# Altium integrated library Atmel Microcontroller 8-Bit AVR.IntLib: 240 symbols (part 5 of 8)
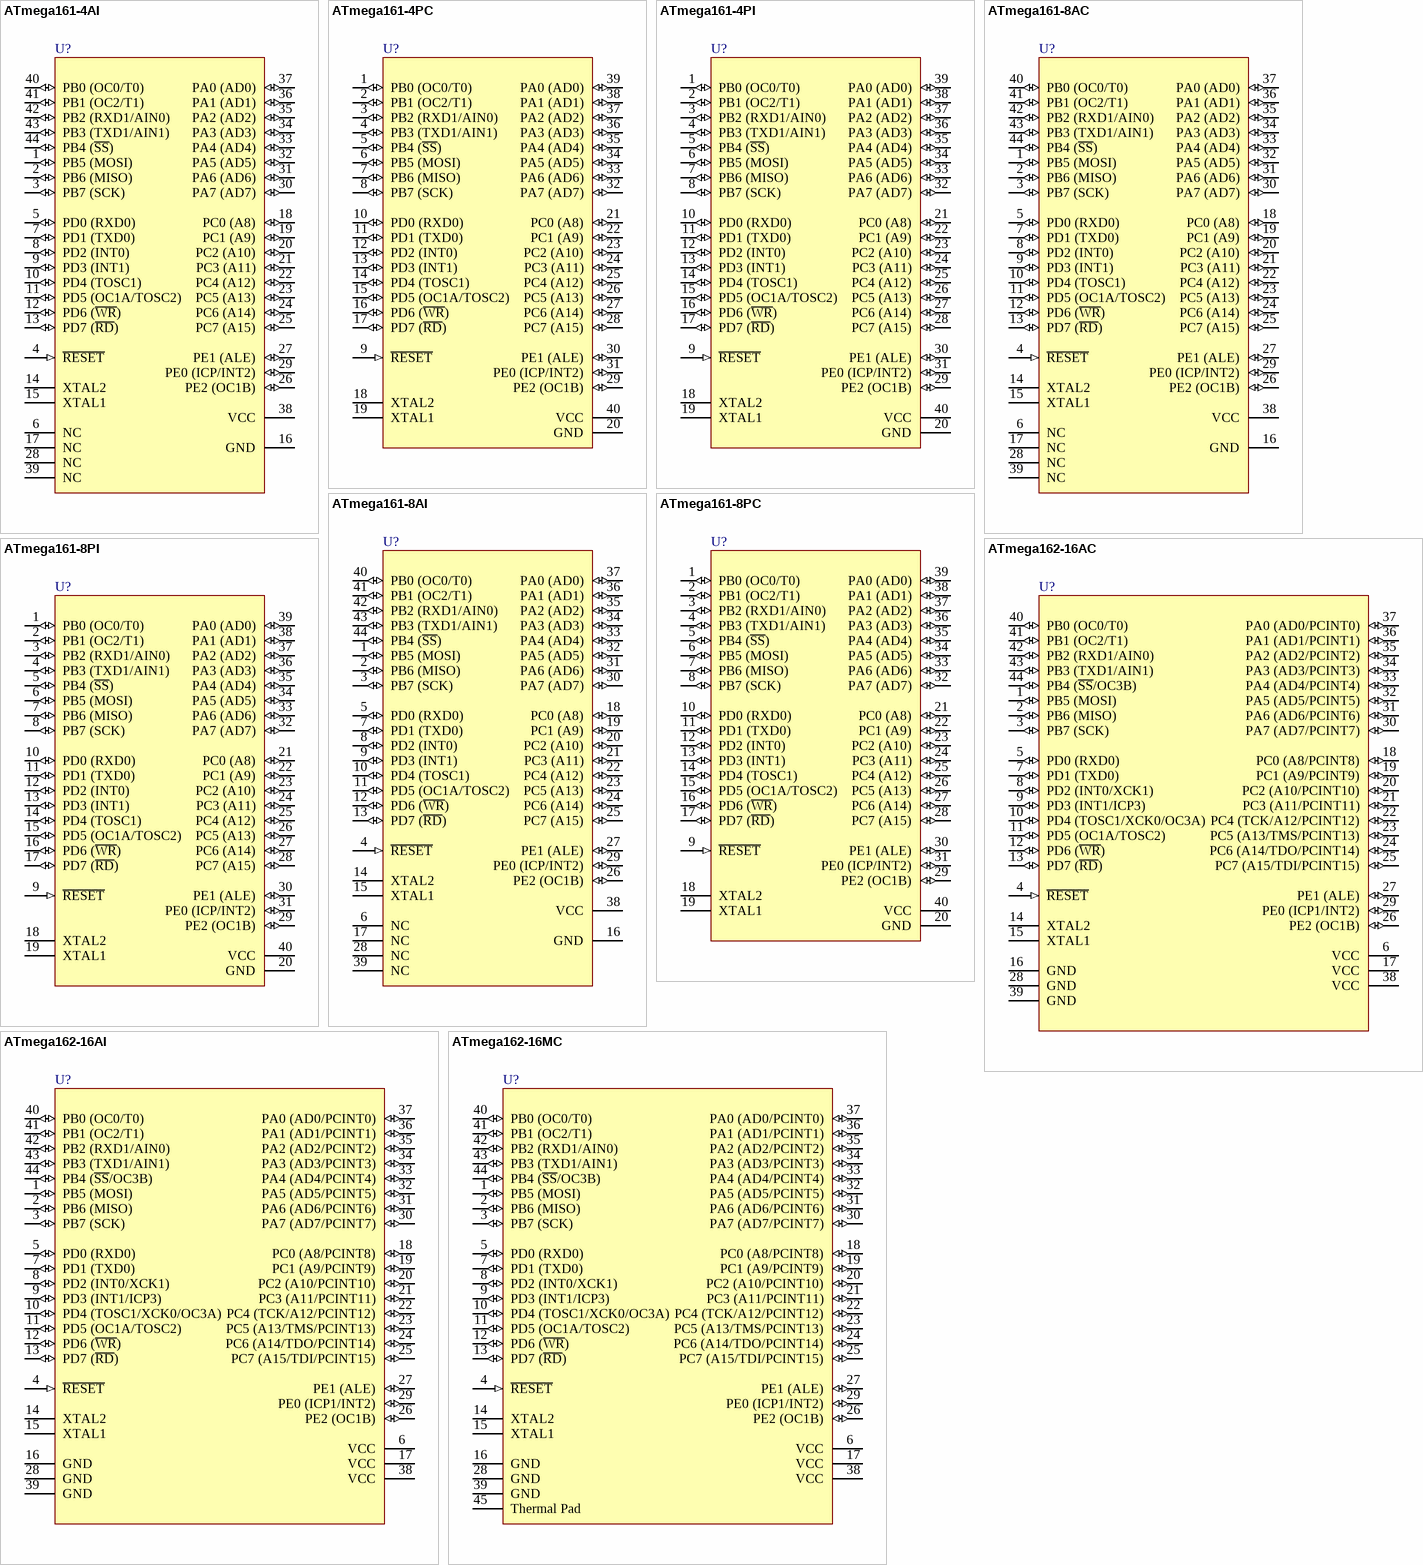
[diagram p22: symbols ATmega161-4AI to ATmega162-16MC]

## ATmega161-4AI
designator U?
8-Bit AVR Microcontroller with 16K Bytes of In-System Programmable Flash Memory; Published: 17-Sep-2003; LatestRevisionDate: 13-Apr-2006; LatestRevisionNote: IPC-7351 Footprint Added.; DatasheetVersion: 1228C-AVR-08/02; PackageVersion: rev.B, Oct-2001; PackageReference: 44A; Publisher: Altium Limited; PackageDescription: 44-Pin Thin Quad Flat Pack 0.8 mm Pitch; ComponentLink1Description: Manufacturer Link; ComponentLink1URL: http://www.atmel.com; ComponentLink2Description: Datasheet; ComponentLink2URL: http://www.atmel.com/dyn/resources/prod_documents/doc1228.pdf
footprint 44A_N (Thin QFP, 44-Leads, Body 10x10mm, Pitch 0.8mm, IPC Medium Density)
footprint 44A_L (Thin QFP, 44-Leads, Body 10x10mm, Pitch 0.8mm, IPC High Density)
footprint 44A_M (Thin QFP, 44-Leads, Body 10x10mm, Pitch 0.8mm, IPC Low Density)
3D model ATMEGA161-44A (44-Pin Thin Quad Flat Pack 0.8 mm Pitch)
pins: 1 PB5 (MOSI) (io), 2 PB6 (MISO) (io), 3 PB7 (SCK) (io), 4 ~{RESET} (in), 5 PD0 (RXD0) (io), 6 NC, 7 PD1 (TXD0) (io), 8 PD2 (INT0) (io), 9 PD3 (INT1) (io), 10 PD4 (TOSC1) (io), 11 PD5 (OC1A/TOSC2) (io), 12 PD6 (~{WR}) (io), 13 PD7 (~{RD}) (io), 14 XTAL2, 15 XTAL1, 16 GND (power), 17 NC, 18 PC0 (A8) (io), 19 PC1 (A9) (io), 20 PC2 (A10) (io), 21 PC3 (A11) (io), 22 PC4 (A12) (io), 23 PC5 (A13) (io), 24 PC6 (A14) (io), 25 PC7 (A15) (io), 26 PE2 (OC1B) (io), 27 PE1 (ALE) (io), 28 NC, 29 PE0 (ICP/INT2) (io), 30 PA7 (AD7) (io), 31 PA6 (AD6) (io), 32 PA5 (AD5) (io), 33 PA4 (AD4) (io), 34 PA3 (AD3) (io), 35 PA2 (AD2) (io), 36 PA1 (AD1) (io), 37 PA0 (AD0) (io), 38 VCC (power), 39 NC, 40 PB0 (OC0/T0) (io), 41 PB1 (OC2/T1) (io), 42 PB2 (RXD1/AIN0) (io), 43 PB3 (TXD1/AIN1) (io), 44 PB4 (~{SS}) (io)

## ATmega161-4PC
designator U?
8-Bit AVR Microcontroller with 16K Bytes of In-System Programmable Flash Memory; Published: 17-Sep-2003; LatestRevisionDate: 04-Mar-2005; LatestRevisionNote: Stylized 3D Model Added.; DatasheetVersion: 1228C-AVR-08/02; PackageVersion: Dec-1999; PackageReference: 40P6; Publisher: Altium Limited; PackageDescription: DIP; 40 Leads; Row Spacing 15.24 mm; Pitch 2.54 mm; ComponentLink1Description: Manufacturer Link; ComponentLink1URL: http://www.atmel.com; ComponentLink2Description: Datasheet; ComponentLink2URL: http://www.atmel.com/dyn/resources/prod_documents/doc1228.pdf
footprint 40P6 (DIP; 40 Leads; Row Spacing 15.24 mm; Pitch 2.54 mm)
3D model 40P6 (DIP; 40 Leads; Row Spacing 15.24 mm; Pitch 2.54 mm)
pins: 1 PB0 (OC0/T0) (io), 2 PB1 (OC2/T1) (io), 3 PB2 (RXD1/AIN0) (io), 4 PB3 (TXD1/AIN1) (io), 5 PB4 (~{SS}) (io), 6 PB5 (MOSI) (io), 7 PB6 (MISO) (io), 8 PB7 (SCK) (io), 9 ~{RESET} (in), 10 PD0 (RXD0) (io), 11 PD1 (TXD0) (io), 12 PD2 (INT0) (io), 13 PD3 (INT1) (io), 14 PD4 (TOSC1) (io), 15 PD5 (OC1A/TOSC2) (io), 16 PD6 (~{WR}) (io), 17 PD7 (~{RD}) (io), 18 XTAL2, 19 XTAL1, 20 GND (power), 21 PC0 (A8) (io), 22 PC1 (A9) (io), 23 PC2 (A10) (io), 24 PC3 (A11) (io), 25 PC4 (A12) (io), 26 PC5 (A13) (io), 27 PC6 (A14) (io), 28 PC7 (A15) (io), 29 PE2 (OC1B) (io), 30 PE1 (ALE) (io), 31 PE0 (ICP/INT2) (io), 32 PA7 (AD7) (io), 33 PA6 (AD6) (io), 34 PA5 (AD5) (io), 35 PA4 (AD4) (io), 36 PA3 (AD3) (io), 37 PA2 (AD2) (io), 38 PA1 (AD1) (io), 39 PA0 (AD0) (io), 40 VCC (power)

## ATmega161-4PI
designator U?
8-Bit AVR Microcontroller with 16K Bytes of In-System Programmable Flash Memory; Published: 17-Sep-2003; LatestRevisionDate: 04-Mar-2005; LatestRevisionNote: Stylized 3D Model Added.; DatasheetVersion: 1228C-AVR-08/02; PackageVersion: Dec-1999; PackageReference: 40P6; Publisher: Altium Limited; PackageDescription: DIP; 40 Leads; Row Spacing 15.24 mm; Pitch 2.54 mm; ComponentLink1Description: Manufacturer Link; ComponentLink1URL: http://www.atmel.com; ComponentLink2Description: Datasheet; ComponentLink2URL: http://www.atmel.com/dyn/resources/prod_documents/doc1228.pdf
footprint 40P6 (DIP; 40 Leads; Row Spacing 15.24 mm; Pitch 2.54 mm)
3D model 40P6 (DIP; 40 Leads; Row Spacing 15.24 mm; Pitch 2.54 mm)
pins: 1 PB0 (OC0/T0) (io), 2 PB1 (OC2/T1) (io), 3 PB2 (RXD1/AIN0) (io), 4 PB3 (TXD1/AIN1) (io), 5 PB4 (~{SS}) (io), 6 PB5 (MOSI) (io), 7 PB6 (MISO) (io), 8 PB7 (SCK) (io), 9 ~{RESET} (in), 10 PD0 (RXD0) (io), 11 PD1 (TXD0) (io), 12 PD2 (INT0) (io), 13 PD3 (INT1) (io), 14 PD4 (TOSC1) (io), 15 PD5 (OC1A/TOSC2) (io), 16 PD6 (~{WR}) (io), 17 PD7 (~{RD}) (io), 18 XTAL2, 19 XTAL1, 20 GND (power), 21 PC0 (A8) (io), 22 PC1 (A9) (io), 23 PC2 (A10) (io), 24 PC3 (A11) (io), 25 PC4 (A12) (io), 26 PC5 (A13) (io), 27 PC6 (A14) (io), 28 PC7 (A15) (io), 29 PE2 (OC1B) (io), 30 PE1 (ALE) (io), 31 PE0 (ICP/INT2) (io), 32 PA7 (AD7) (io), 33 PA6 (AD6) (io), 34 PA5 (AD5) (io), 35 PA4 (AD4) (io), 36 PA3 (AD3) (io), 37 PA2 (AD2) (io), 38 PA1 (AD1) (io), 39 PA0 (AD0) (io), 40 VCC (power)

## ATmega161-8AC
designator U?
8-Bit AVR Microcontroller with 16K Bytes of In-System Programmable Flash Memory; Published: 17-Sep-2003; LatestRevisionDate: 13-Apr-2006; LatestRevisionNote: IPC-7351 Footprint Added.; DatasheetVersion: 1228C-AVR-08/02; PackageVersion: rev.B, Oct-2001; PackageReference: 44A; Publisher: Altium Limited; PackageDescription: 44-Pin Thin Quad Flat Pack 0.8 mm Pitch; ComponentLink1Description: Manufacturer Link; ComponentLink1URL: http://www.atmel.com; ComponentLink2Description: Datasheet; ComponentLink2URL: http://www.atmel.com/dyn/resources/prod_documents/doc1228.pdf
footprint 44A_N (Thin QFP, 44-Leads, Body 10x10mm, Pitch 0.8mm, IPC Medium Density)
footprint 44A_L (Thin QFP, 44-Leads, Body 10x10mm, Pitch 0.8mm, IPC High Density)
footprint 44A_M (Thin QFP, 44-Leads, Body 10x10mm, Pitch 0.8mm, IPC Low Density)
3D model ATMEGA161-44A (44-Pin Thin Quad Flat Pack 0.8 mm Pitch)
pins: 1 PB5 (MOSI) (io), 2 PB6 (MISO) (io), 3 PB7 (SCK) (io), 4 ~{RESET} (in), 5 PD0 (RXD0) (io), 6 NC, 7 PD1 (TXD0) (io), 8 PD2 (INT0) (io), 9 PD3 (INT1) (io), 10 PD4 (TOSC1) (io), 11 PD5 (OC1A/TOSC2) (io), 12 PD6 (~{WR}) (io), 13 PD7 (~{RD}) (io), 14 XTAL2, 15 XTAL1, 16 GND (power), 17 NC, 18 PC0 (A8) (io), 19 PC1 (A9) (io), 20 PC2 (A10) (io), 21 PC3 (A11) (io), 22 PC4 (A12) (io), 23 PC5 (A13) (io), 24 PC6 (A14) (io), 25 PC7 (A15) (io), 26 PE2 (OC1B) (io), 27 PE1 (ALE) (io), 28 NC, 29 PE0 (ICP/INT2) (io), 30 PA7 (AD7) (io), 31 PA6 (AD6) (io), 32 PA5 (AD5) (io), 33 PA4 (AD4) (io), 34 PA3 (AD3) (io), 35 PA2 (AD2) (io), 36 PA1 (AD1) (io), 37 PA0 (AD0) (io), 38 VCC (power), 39 NC, 40 PB0 (OC0/T0) (io), 41 PB1 (OC2/T1) (io), 42 PB2 (RXD1/AIN0) (io), 43 PB3 (TXD1/AIN1) (io), 44 PB4 (~{SS}) (io)

## ATmega161-8AI
designator U?
8-Bit AVR Microcontroller with 16K Bytes of In-System Programmable Flash Memory; Published: 17-Sep-2003; LatestRevisionDate: 13-Apr-2006; LatestRevisionNote: IPC-7351 Footprint Added.; DatasheetVersion: 1228C-AVR-08/02; PackageVersion: rev.B, Oct-2001; PackageReference: 44A; Publisher: Altium Limited; PackageDescription: 44-Pin Thin Quad Flat Pack 0.8 mm Pitch; ComponentLink1Description: Manufacturer Link; ComponentLink1URL: http://www.atmel.com; ComponentLink2Description: Datasheet; ComponentLink2URL: http://www.atmel.com/dyn/resources/prod_documents/doc1228.pdf
footprint 44A_N (Thin QFP, 44-Leads, Body 10x10mm, Pitch 0.8mm, IPC Medium Density)
footprint 44A_L (Thin QFP, 44-Leads, Body 10x10mm, Pitch 0.8mm, IPC High Density)
footprint 44A_M (Thin QFP, 44-Leads, Body 10x10mm, Pitch 0.8mm, IPC Low Density)
3D model ATMEGA161-44A (44-Pin Thin Quad Flat Pack 0.8 mm Pitch)
pins: 1 PB5 (MOSI) (io), 2 PB6 (MISO) (io), 3 PB7 (SCK) (io), 4 ~{RESET} (in), 5 PD0 (RXD0) (io), 6 NC, 7 PD1 (TXD0) (io), 8 PD2 (INT0) (io), 9 PD3 (INT1) (io), 10 PD4 (TOSC1) (io), 11 PD5 (OC1A/TOSC2) (io), 12 PD6 (~{WR}) (io), 13 PD7 (~{RD}) (io), 14 XTAL2, 15 XTAL1, 16 GND (power), 17 NC, 18 PC0 (A8) (io), 19 PC1 (A9) (io), 20 PC2 (A10) (io), 21 PC3 (A11) (io), 22 PC4 (A12) (io), 23 PC5 (A13) (io), 24 PC6 (A14) (io), 25 PC7 (A15) (io), 26 PE2 (OC1B) (io), 27 PE1 (ALE) (io), 28 NC, 29 PE0 (ICP/INT2) (io), 30 PA7 (AD7) (io), 31 PA6 (AD6) (io), 32 PA5 (AD5) (io), 33 PA4 (AD4) (io), 34 PA3 (AD3) (io), 35 PA2 (AD2) (io), 36 PA1 (AD1) (io), 37 PA0 (AD0) (io), 38 VCC (power), 39 NC, 40 PB0 (OC0/T0) (io), 41 PB1 (OC2/T1) (io), 42 PB2 (RXD1/AIN0) (io), 43 PB3 (TXD1/AIN1) (io), 44 PB4 (~{SS}) (io)

## ATmega161-8PC
designator U?
8-Bit AVR Microcontroller with 16K Bytes of In-System Programmable Flash Memory; Published: 17-Sep-2003; LatestRevisionDate: 04-Mar-2005; LatestRevisionNote: Stylized 3D Model Added.; DatasheetVersion: 1228C-AVR-08/02; PackageVersion: Dec-1999; PackageReference: 40P6; Publisher: Altium Limited; PackageDescription: DIP; 40 Leads; Row Spacing 15.24 mm; Pitch 2.54 mm; ComponentLink1Description: Manufacturer Link; ComponentLink1URL: http://www.atmel.com; ComponentLink2Description: Datasheet; ComponentLink2URL: http://www.atmel.com/dyn/resources/prod_documents/doc1228.pdf
footprint 40P6 (DIP; 40 Leads; Row Spacing 15.24 mm; Pitch 2.54 mm)
3D model 40P6 (DIP; 40 Leads; Row Spacing 15.24 mm; Pitch 2.54 mm)
pins: 1 PB0 (OC0/T0) (io), 2 PB1 (OC2/T1) (io), 3 PB2 (RXD1/AIN0) (io), 4 PB3 (TXD1/AIN1) (io), 5 PB4 (~{SS}) (io), 6 PB5 (MOSI) (io), 7 PB6 (MISO) (io), 8 PB7 (SCK) (io), 9 ~{RESET} (in), 10 PD0 (RXD0) (io), 11 PD1 (TXD0) (io), 12 PD2 (INT0) (io), 13 PD3 (INT1) (io), 14 PD4 (TOSC1) (io), 15 PD5 (OC1A/TOSC2) (io), 16 PD6 (~{WR}) (io), 17 PD7 (~{RD}) (io), 18 XTAL2, 19 XTAL1, 20 GND (power), 21 PC0 (A8) (io), 22 PC1 (A9) (io), 23 PC2 (A10) (io), 24 PC3 (A11) (io), 25 PC4 (A12) (io), 26 PC5 (A13) (io), 27 PC6 (A14) (io), 28 PC7 (A15) (io), 29 PE2 (OC1B) (io), 30 PE1 (ALE) (io), 31 PE0 (ICP/INT2) (io), 32 PA7 (AD7) (io), 33 PA6 (AD6) (io), 34 PA5 (AD5) (io), 35 PA4 (AD4) (io), 36 PA3 (AD3) (io), 37 PA2 (AD2) (io), 38 PA1 (AD1) (io), 39 PA0 (AD0) (io), 40 VCC (power)

## ATmega161-8PI
designator U?
8-Bit AVR Microcontroller with 16K Bytes of In-System Programmable Flash Memory; Published: 17-Sep-2003; LatestRevisionDate: 04-Mar-2005; LatestRevisionNote: Stylized 3D Model Added.; DatasheetVersion: 1228C-AVR-08/02; PackageVersion: Dec-1999; PackageReference: 40P6; Publisher: Altium Limited; PackageDescription: DIP; 40 Leads; Row Spacing 15.24 mm; Pitch 2.54 mm; ComponentLink1Description: Manufacturer Link; ComponentLink1URL: http://www.atmel.com; ComponentLink2Description: Datasheet; ComponentLink2URL: http://www.atmel.com/dyn/resources/prod_documents/doc1228.pdf
footprint 40P6 (DIP; 40 Leads; Row Spacing 15.24 mm; Pitch 2.54 mm)
3D model 40P6 (DIP; 40 Leads; Row Spacing 15.24 mm; Pitch 2.54 mm)
pins: 1 PB0 (OC0/T0) (io), 2 PB1 (OC2/T1) (io), 3 PB2 (RXD1/AIN0) (io), 4 PB3 (TXD1/AIN1) (io), 5 PB4 (~{SS}) (io), 6 PB5 (MOSI) (io), 7 PB6 (MISO) (io), 8 PB7 (SCK) (io), 9 ~{RESET} (in), 10 PD0 (RXD0) (io), 11 PD1 (TXD0) (io), 12 PD2 (INT0) (io), 13 PD3 (INT1) (io), 14 PD4 (TOSC1) (io), 15 PD5 (OC1A/TOSC2) (io), 16 PD6 (~{WR}) (io), 17 PD7 (~{RD}) (io), 18 XTAL2, 19 XTAL1, 20 GND (power), 21 PC0 (A8) (io), 22 PC1 (A9) (io), 23 PC2 (A10) (io), 24 PC3 (A11) (io), 25 PC4 (A12) (io), 26 PC5 (A13) (io), 27 PC6 (A14) (io), 28 PC7 (A15) (io), 29 PE2 (OC1B) (io), 30 PE1 (ALE) (io), 31 PE0 (ICP/INT2) (io), 32 PA7 (AD7) (io), 33 PA6 (AD6) (io), 34 PA5 (AD5) (io), 35 PA4 (AD4) (io), 36 PA3 (AD3) (io), 37 PA2 (AD2) (io), 38 PA1 (AD1) (io), 39 PA0 (AD0) (io), 40 VCC (power)

## ATmega162-16AC
designator U?
8-Bit AVR Microcontroller with 16K Bytes of In-System Programmable Flash Memory; Published: 17-Sep-2003; LatestRevisionDate: 13-Apr-2006; LatestRevisionNote: IPC-7351 Footprint Added.; DatasheetVersion: 2513C-AVR-09/02; PackageVersion: rev.B, Oct-2001; PackageReference: 44A; Publisher: Altium Limited; PackageDescription: 44-Pin Thin Quad Flat Pack 0.8 mm Pitch; ComponentLink1Description: Manufacturer Link; ComponentLink1URL: http://www.atmel.com; ComponentLink2Description: Datasheet; ComponentLink2URL: http://www.atmel.com/dyn/resources/prod_documents/doc2513.pdf
footprint 44A_N (Thin QFP, 44-Leads, Body 10x10mm, Pitch 0.8mm, IPC Medium Density)
footprint 44A_L (Thin QFP, 44-Leads, Body 10x10mm, Pitch 0.8mm, IPC High Density)
footprint 44A_M (Thin QFP, 44-Leads, Body 10x10mm, Pitch 0.8mm, IPC Low Density)
3D model ATMEGA162-44A (44-Pin Thin Quad Flat Pack 0.8 mm Pitch)
pins: 1 PB5 (MOSI) (io), 2 PB6 (MISO) (io), 3 PB7 (SCK) (io), 4 ~{RESET} (in), 5 PD0 (RXD0) (io), 6 VCC (power), 7 PD1 (TXD0) (io), 8 PD2 (INT0/XCK1) (io), 9 PD3 (INT1/ICP3) (io), 10 PD4 (TOSC1/XCK0/OC3A) (io), 11 PD5 (OC1A/TOSC2) (io), 12 PD6 (~{WR}) (io), 13 PD7 (~{RD}) (io), 14 XTAL2, 15 XTAL1, 16 GND (power), 17 VCC (power), 18 PC0 (A8/PCINT8) (io), 19 PC1 (A9/PCINT9) (io), 20 PC2 (A10/PCINT10) (io), 21 PC3 (A11/PCINT11) (io), 22 PC4 (TCK/A12/PCINT12) (io), 23 PC5 (A13/TMS/PCINT13) (io), 24 PC6 (A14/TDO/PCINT14) (io), 25 PC7 (A15/TDI/PCINT15) (io), 26 PE2 (OC1B) (io), 27 PE1 (ALE) (io), 28 GND (power), 29 PE0 (ICP1/INT2) (io), 30 PA7 (AD7/PCINT7) (io), 31 PA6 (AD6/PCINT6) (io), 32 PA5 (AD5/PCINT5) (io), 33 PA4 (AD4/PCINT4) (io), 34 PA3 (AD3/PCINT3) (io), 35 PA2 (AD2/PCINT2) (io), 36 PA1 (AD1/PCINT1) (io), 37 PA0 (AD0/PCINT0) (io), 38 VCC (power), 39 GND (power), 40 PB0 (OC0/T0) (io), 41 PB1 (OC2/T1) (io), 42 PB2 (RXD1/AIN0) (io), 43 PB3 (TXD1/AIN1) (io), 44 PB4 (~{SS}/OC3B) (io)

## ATmega162-16AI
designator U?
8-Bit AVR Microcontroller with 16K Bytes of In-System Programmable Flash Memory; Published: 17-Sep-2003; LatestRevisionDate: 13-Apr-2006; LatestRevisionNote: IPC-7351 Footprint Added.; DatasheetVersion: 2513C-AVR-09/02; PackageVersion: rev.B, Oct-2001; PackageReference: 44A; Publisher: Altium Limited; PackageDescription: 44-Pin Thin Quad Flat Pack 0.8 mm Pitch; ComponentLink1Description: Manufacturer Link; ComponentLink1URL: http://www.atmel.com; ComponentLink2Description: Datasheet; ComponentLink2URL: http://www.atmel.com/dyn/resources/prod_documents/doc2513.pdf
footprint 44A_N (Thin QFP, 44-Leads, Body 10x10mm, Pitch 0.8mm, IPC Medium Density)
footprint 44A_L (Thin QFP, 44-Leads, Body 10x10mm, Pitch 0.8mm, IPC High Density)
footprint 44A_M (Thin QFP, 44-Leads, Body 10x10mm, Pitch 0.8mm, IPC Low Density)
3D model ATMEGA162-44A (44-Pin Thin Quad Flat Pack 0.8 mm Pitch)
pins: 1 PB5 (MOSI) (io), 2 PB6 (MISO) (io), 3 PB7 (SCK) (io), 4 ~{RESET} (in), 5 PD0 (RXD0) (io), 6 VCC (power), 7 PD1 (TXD0) (io), 8 PD2 (INT0/XCK1) (io), 9 PD3 (INT1/ICP3) (io), 10 PD4 (TOSC1/XCK0/OC3A) (io), 11 PD5 (OC1A/TOSC2) (io), 12 PD6 (~{WR}) (io), 13 PD7 (~{RD}) (io), 14 XTAL2, 15 XTAL1, 16 GND (power), 17 VCC (power), 18 PC0 (A8/PCINT8) (io), 19 PC1 (A9/PCINT9) (io), 20 PC2 (A10/PCINT10) (io), 21 PC3 (A11/PCINT11) (io), 22 PC4 (TCK/A12/PCINT12) (io), 23 PC5 (A13/TMS/PCINT13) (io), 24 PC6 (A14/TDO/PCINT14) (io), 25 PC7 (A15/TDI/PCINT15) (io), 26 PE2 (OC1B) (io), 27 PE1 (ALE) (io), 28 GND (power), 29 PE0 (ICP1/INT2) (io), 30 PA7 (AD7/PCINT7) (io), 31 PA6 (AD6/PCINT6) (io), 32 PA5 (AD5/PCINT5) (io), 33 PA4 (AD4/PCINT4) (io), 34 PA3 (AD3/PCINT3) (io), 35 PA2 (AD2/PCINT2) (io), 36 PA1 (AD1/PCINT1) (io), 37 PA0 (AD0/PCINT0) (io), 38 VCC (power), 39 GND (power), 40 PB0 (OC0/T0) (io), 41 PB1 (OC2/T1) (io), 42 PB2 (RXD1/AIN0) (io), 43 PB3 (TXD1/AIN1) (io), 44 PB4 (~{SS}/OC3B) (io)

## ATmega162-16MC
designator U?
8-Bit AVR Microcontroller with 16K Bytes of In-System Programmable Flash Memory; Published: 26-May-2004; LatestRevisionDate: 13-Apr-2006; LatestRevisionNote: IPC-7351 Footprint Added.; DatasheetVersion: 2513C-AVR-09/02; PackageVersion: revB, Aug-2001; PackageReference: 44M1; Publisher: Altium Limited; PackageDescription: 44-Pin Quad Flat No-Lead 0.5 mm Pitch; Code_JEDEC: MO-220-VKKD-1; ComponentLink1Description: Manufacturer Link; ComponentLink1URL: http://www.atmel.com; ComponentLink2Description: Datasheet; ComponentLink2URL: http://www.atmel.com/dyn/resources/prod_documents/doc2513.pdf
footprint 44M1_N (QFN, 44-Leads, Body 7x7mm, Pitch 0.5mm, IPC Medium Density)
footprint 44M1_L (QFN, 44-Leads, Body 7x7mm, Pitch 0.5mm, IPC High Density)
footprint 44M1_M (QFN, 44-Leads, Body 7x7mm, Pitch 0.5mm, IPC Low Density)
pins: 1 PB5 (MOSI) (io), 2 PB6 (MISO) (io), 3 PB7 (SCK) (io), 4 ~{RESET} (in), 5 PD0 (RXD0) (io), 6 VCC (power), 7 PD1 (TXD0) (io), 8 PD2 (INT0/XCK1) (io), 9 PD3 (INT1/ICP3) (io), 10 PD4 (TOSC1/XCK0/OC3A) (io), 11 PD5 (OC1A/TOSC2) (io), 12 PD6 (~{WR}) (io), 13 PD7 (~{RD}) (io), 14 XTAL2, 15 XTAL1, 16 GND (power), 17 VCC (power), 18 PC0 (A8/PCINT8) (io), 19 PC1 (A9/PCINT9) (io), 20 PC2 (A10/PCINT10) (io), 21 PC3 (A11/PCINT11) (io), 22 PC4 (TCK/A12/PCINT12) (io), 23 PC5 (A13/TMS/PCINT13) (io), 24 PC6 (A14/TDO/PCINT14) (io), 25 PC7 (A15/TDI/PCINT15) (io), 26 PE2 (OC1B) (io), 27 PE1 (ALE) (io), 28 GND (power), 29 PE0 (ICP1/INT2) (io), 30 PA7 (AD7/PCINT7) (io), 31 PA6 (AD6/PCINT6) (io), 32 PA5 (AD5/PCINT5) (io), 33 PA4 (AD4/PCINT4) (io), 34 PA3 (AD3/PCINT3) (io), 35 PA2 (AD2/PCINT2) (io), 36 PA1 (AD1/PCINT1) (io), 37 PA0 (AD0/PCINT0) (io), 38 VCC (power), 39 GND (power), 40 PB0 (OC0/T0) (io), 41 PB1 (OC2/T1) (io), 42 PB2 (RXD1/AIN0) (io), 43 PB3 (TXD1/AIN1) (io), 44 PB4 (~{SS}/OC3B) (io), 45 Thermal Pad (power)

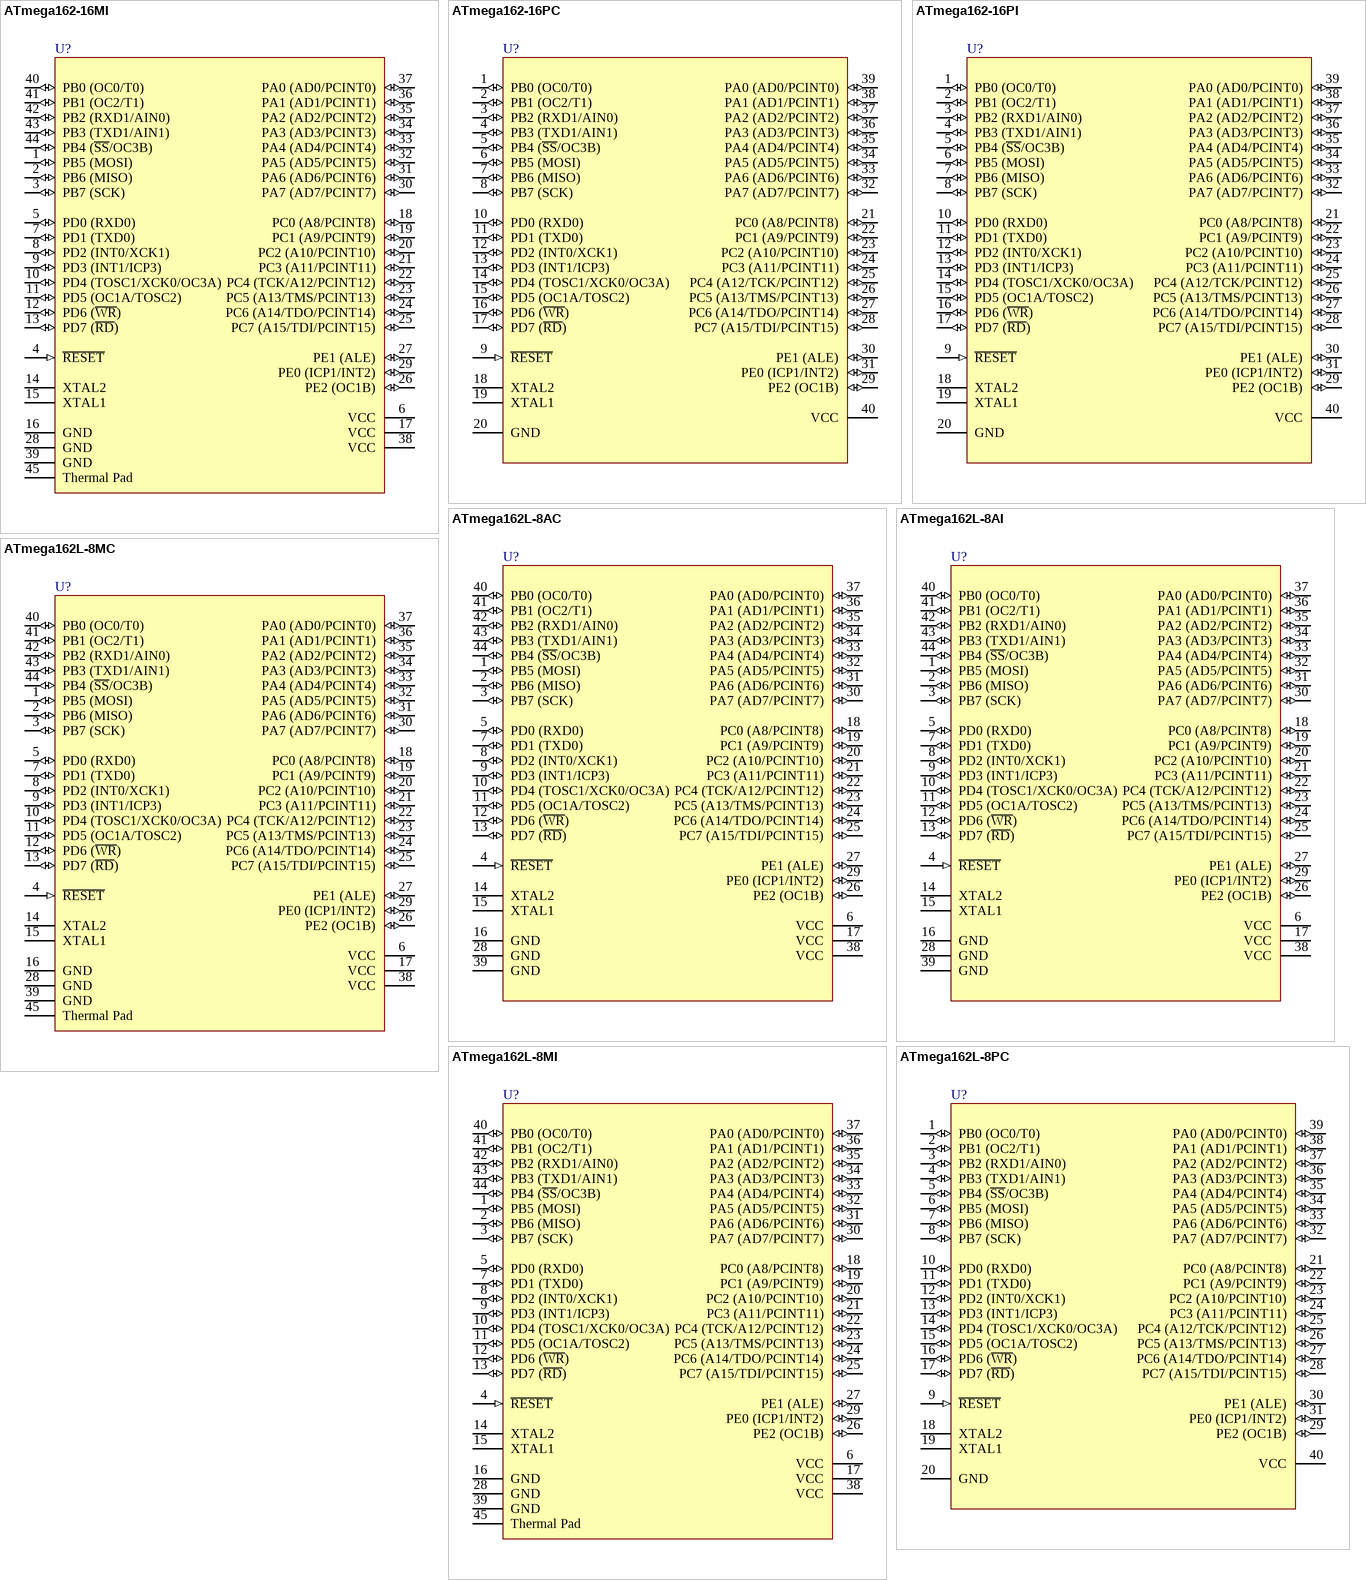
[diagram p11: symbols ATmega162-16MI to ATmega162L-8PC]

## ATmega162-16MI
designator U?
8-Bit AVR Microcontroller with 16K Bytes of In-System Programmable Flash Memory; Published: 26-May-2004; LatestRevisionDate: 13-Apr-2006; LatestRevisionNote: IPC-7351 Footprint Added.; DatasheetVersion: 2513C-AVR-09/02; PackageVersion: revB, Aug-2001; PackageReference: 44M1; Publisher: Altium Limited; PackageDescription: 44-Pin Quad Flat No-Lead 0.5 mm Pitch; Code_JEDEC: MO-220-VKKD-1; ComponentLink1Description: Manufacturer Link; ComponentLink1URL: http://www.atmel.com; ComponentLink2Description: Datasheet; ComponentLink2URL: http://www.atmel.com/dyn/resources/prod_documents/doc2513.pdf
footprint 44M1_N (QFN, 44-Leads, Body 7x7mm, Pitch 0.5mm, IPC Medium Density)
footprint 44M1_L (QFN, 44-Leads, Body 7x7mm, Pitch 0.5mm, IPC High Density)
footprint 44M1_M (QFN, 44-Leads, Body 7x7mm, Pitch 0.5mm, IPC Low Density)
pins: 1 PB5 (MOSI) (io), 2 PB6 (MISO) (io), 3 PB7 (SCK) (io), 4 ~{RESET} (in), 5 PD0 (RXD0) (io), 6 VCC (power), 7 PD1 (TXD0) (io), 8 PD2 (INT0/XCK1) (io), 9 PD3 (INT1/ICP3) (io), 10 PD4 (TOSC1/XCK0/OC3A) (io), 11 PD5 (OC1A/TOSC2) (io), 12 PD6 (~{WR}) (io), 13 PD7 (~{RD}) (io), 14 XTAL2, 15 XTAL1, 16 GND (power), 17 VCC (power), 18 PC0 (A8/PCINT8) (io), 19 PC1 (A9/PCINT9) (io), 20 PC2 (A10/PCINT10) (io), 21 PC3 (A11/PCINT11) (io), 22 PC4 (TCK/A12/PCINT12) (io), 23 PC5 (A13/TMS/PCINT13) (io), 24 PC6 (A14/TDO/PCINT14) (io), 25 PC7 (A15/TDI/PCINT15) (io), 26 PE2 (OC1B) (io), 27 PE1 (ALE) (io), 28 GND (power), 29 PE0 (ICP1/INT2) (io), 30 PA7 (AD7/PCINT7) (io), 31 PA6 (AD6/PCINT6) (io), 32 PA5 (AD5/PCINT5) (io), 33 PA4 (AD4/PCINT4) (io), 34 PA3 (AD3/PCINT3) (io), 35 PA2 (AD2/PCINT2) (io), 36 PA1 (AD1/PCINT1) (io), 37 PA0 (AD0/PCINT0) (io), 38 VCC (power), 39 GND (power), 40 PB0 (OC0/T0) (io), 41 PB1 (OC2/T1) (io), 42 PB2 (RXD1/AIN0) (io), 43 PB3 (TXD1/AIN1) (io), 44 PB4 (~{SS}/OC3B) (io), 45 Thermal Pad (power)

## ATmega162-16PC
designator U?
8-Bit AVR Microcontroller with 16K Bytes of In-System Programmable Flash Memory; Published: 17-Sep-2003; LatestRevisionDate: 04-Mar-2005; LatestRevisionNote: Stylized 3D Model Added.; DatasheetVersion: 2513C-AVR-09/02; PackageVersion: Dec-1999; PackageReference: 40P6; Publisher: Altium Limited; PackageDescription: DIP; 40 Leads; Row Spacing 15.24 mm; Pitch 2.54 mm; ComponentLink1Description: Manufacturer Link; ComponentLink1URL: http://www.atmel.com; ComponentLink2Description: Datasheet; ComponentLink2URL: http://www.atmel.com/dyn/resources/prod_documents/doc2513.pdf
footprint 40P6 (DIP; 40 Leads; Row Spacing 15.24 mm; Pitch 2.54 mm)
3D model 40P6 (DIP; 40 Leads; Row Spacing 15.24 mm; Pitch 2.54 mm)
pins: 1 PB0 (OC0/T0) (io), 2 PB1 (OC2/T1) (io), 3 PB2 (RXD1/AIN0) (io), 4 PB3 (TXD1/AIN1) (io), 5 PB4 (~{SS}/OC3B) (io), 6 PB5 (MOSI) (io), 7 PB6 (MISO) (io), 8 PB7 (SCK) (io), 9 ~{RESET} (in), 10 PD0 (RXD0) (io), 11 PD1 (TXD0) (io), 12 PD2 (INT0/XCK1) (io), 13 PD3 (INT1/ICP3) (io), 14 PD4 (TOSC1/XCK0/OC3A) (io), 15 PD5 (OC1A/TOSC2) (io), 16 PD6 (~{WR}) (io), 17 PD7 (~{RD}) (io), 18 XTAL2, 19 XTAL1, 20 GND (power), 21 PC0 (A8/PCINT8) (io), 22 PC1 (A9/PCINT9) (io), 23 PC2 (A10/PCINT10) (io), 24 PC3 (A11/PCINT11) (io), 25 PC4 (A12/TCK/PCINT12) (io), 26 PC5 (A13/TMS/PCINT13) (io), 27 PC6 (A14/TDO/PCINT14) (io), 28 PC7 (A15/TDI/PCINT15) (io), 29 PE2 (OC1B) (io), 30 PE1 (ALE) (io), 31 PE0 (ICP1/INT2) (io), 32 PA7 (AD7/PCINT7) (io), 33 PA6 (AD6/PCINT6) (io), 34 PA5 (AD5/PCINT5) (io), 35 PA4 (AD4/PCINT4) (io), 36 PA3 (AD3/PCINT3) (io), 37 PA2 (AD2/PCINT2) (io), 38 PA1 (AD1/PCINT1) (io), 39 PA0 (AD0/PCINT0) (io), 40 VCC (power)

## ATmega162-16PI
designator U?
8-Bit AVR Microcontroller with 16K Bytes of In-System Programmable Flash Memory; Published: 17-Sep-2003; LatestRevisionDate: 04-Mar-2005; LatestRevisionNote: Stylized 3D Model Added.; DatasheetVersion: 2513C-AVR-09/02; PackageVersion: Dec-1999; PackageReference: 40P6; Publisher: Altium Limited; PackageDescription: DIP; 40 Leads; Row Spacing 15.24 mm; Pitch 2.54 mm; ComponentLink1Description: Manufacturer Link; ComponentLink1URL: http://www.atmel.com; ComponentLink2Description: Datasheet; ComponentLink2URL: http://www.atmel.com/dyn/resources/prod_documents/doc2513.pdf
footprint 40P6 (DIP; 40 Leads; Row Spacing 15.24 mm; Pitch 2.54 mm)
3D model 40P6 (DIP; 40 Leads; Row Spacing 15.24 mm; Pitch 2.54 mm)
pins: 1 PB0 (OC0/T0) (io), 2 PB1 (OC2/T1) (io), 3 PB2 (RXD1/AIN0) (io), 4 PB3 (TXD1/AIN1) (io), 5 PB4 (~{SS}/OC3B) (io), 6 PB5 (MOSI) (io), 7 PB6 (MISO) (io), 8 PB7 (SCK) (io), 9 ~{RESET} (in), 10 PD0 (RXD0) (io), 11 PD1 (TXD0) (io), 12 PD2 (INT0/XCK1) (io), 13 PD3 (INT1/ICP3) (io), 14 PD4 (TOSC1/XCK0/OC3A) (io), 15 PD5 (OC1A/TOSC2) (io), 16 PD6 (~{WR}) (io), 17 PD7 (~{RD}) (io), 18 XTAL2, 19 XTAL1, 20 GND (power), 21 PC0 (A8/PCINT8) (io), 22 PC1 (A9/PCINT9) (io), 23 PC2 (A10/PCINT10) (io), 24 PC3 (A11/PCINT11) (io), 25 PC4 (A12/TCK/PCINT12) (io), 26 PC5 (A13/TMS/PCINT13) (io), 27 PC6 (A14/TDO/PCINT14) (io), 28 PC7 (A15/TDI/PCINT15) (io), 29 PE2 (OC1B) (io), 30 PE1 (ALE) (io), 31 PE0 (ICP1/INT2) (io), 32 PA7 (AD7/PCINT7) (io), 33 PA6 (AD6/PCINT6) (io), 34 PA5 (AD5/PCINT5) (io), 35 PA4 (AD4/PCINT4) (io), 36 PA3 (AD3/PCINT3) (io), 37 PA2 (AD2/PCINT2) (io), 38 PA1 (AD1/PCINT1) (io), 39 PA0 (AD0/PCINT0) (io), 40 VCC (power)

## ATmega162L-8AC
designator U?
8-Bit AVR Microcontroller with 16K Bytes of In-System Programmable Flash Memory; Published: 17-Sep-2003; LatestRevisionDate: 13-Apr-2006; LatestRevisionNote: IPC-7351 Footprint Added.; DatasheetVersion: 2513C-AVR-09/02; PackageVersion: rev.B, Oct-2001; PackageReference: 44A; Publisher: Altium Limited; PackageDescription: 44-Pin Thin Quad Flat Pack 0.8 mm Pitch; ComponentLink1Description: Manufacturer Link; ComponentLink1URL: http://www.atmel.com; ComponentLink2Description: Datasheet; ComponentLink2URL: http://www.atmel.com/dyn/resources/prod_documents/doc2513.pdf
footprint 44A_N (Thin QFP, 44-Leads, Body 10x10mm, Pitch 0.8mm, IPC Medium Density)
footprint 44A_L (Thin QFP, 44-Leads, Body 10x10mm, Pitch 0.8mm, IPC High Density)
footprint 44A_M (Thin QFP, 44-Leads, Body 10x10mm, Pitch 0.8mm, IPC Low Density)
3D model ATMEGA162L-44A (44-Pin Thin Quad Flat Pack 0.8 mm Pitch)
pins: 1 PB5 (MOSI) (io), 2 PB6 (MISO) (io), 3 PB7 (SCK) (io), 4 ~{RESET} (in), 5 PD0 (RXD0) (io), 6 VCC (power), 7 PD1 (TXD0) (io), 8 PD2 (INT0/XCK1) (io), 9 PD3 (INT1/ICP3) (io), 10 PD4 (TOSC1/XCK0/OC3A) (io), 11 PD5 (OC1A/TOSC2) (io), 12 PD6 (~{WR}) (io), 13 PD7 (~{RD}) (io), 14 XTAL2, 15 XTAL1, 16 GND (power), 17 VCC (power), 18 PC0 (A8/PCINT8) (io), 19 PC1 (A9/PCINT9) (io), 20 PC2 (A10/PCINT10) (io), 21 PC3 (A11/PCINT11) (io), 22 PC4 (TCK/A12/PCINT12) (io), 23 PC5 (A13/TMS/PCINT13) (io), 24 PC6 (A14/TDO/PCINT14) (io), 25 PC7 (A15/TDI/PCINT15) (io), 26 PE2 (OC1B) (io), 27 PE1 (ALE) (io), 28 GND (power), 29 PE0 (ICP1/INT2) (io), 30 PA7 (AD7/PCINT7) (io), 31 PA6 (AD6/PCINT6) (io), 32 PA5 (AD5/PCINT5) (io), 33 PA4 (AD4/PCINT4) (io), 34 PA3 (AD3/PCINT3) (io), 35 PA2 (AD2/PCINT2) (io), 36 PA1 (AD1/PCINT1) (io), 37 PA0 (AD0/PCINT0) (io), 38 VCC (power), 39 GND (power), 40 PB0 (OC0/T0) (io), 41 PB1 (OC2/T1) (io), 42 PB2 (RXD1/AIN0) (io), 43 PB3 (TXD1/AIN1) (io), 44 PB4 (~{SS}/OC3B) (io)

## ATmega162L-8AI
designator U?
8-Bit AVR Microcontroller with 16K Bytes of In-System Programmable Flash Memory; Published: 17-Sep-2003; LatestRevisionDate: 13-Apr-2006; LatestRevisionNote: IPC-7351 Footprint Added.; DatasheetVersion: 2513C-AVR-09/02; PackageVersion: rev.B, Oct-2001; PackageReference: 44A; Publisher: Altium Limited; PackageDescription: 44-Pin Thin Quad Flat Pack 0.8 mm Pitch; ComponentLink1Description: Manufacturer Link; ComponentLink1URL: http://www.atmel.com; ComponentLink2Description: Datasheet; ComponentLink2URL: http://www.atmel.com/dyn/resources/prod_documents/doc2513.pdf
footprint 44A_N (Thin QFP, 44-Leads, Body 10x10mm, Pitch 0.8mm, IPC Medium Density)
footprint 44A_L (Thin QFP, 44-Leads, Body 10x10mm, Pitch 0.8mm, IPC High Density)
footprint 44A_M (Thin QFP, 44-Leads, Body 10x10mm, Pitch 0.8mm, IPC Low Density)
3D model ATMEGA162L-44A (44-Pin Thin Quad Flat Pack 0.8 mm Pitch)
pins: 1 PB5 (MOSI) (io), 2 PB6 (MISO) (io), 3 PB7 (SCK) (io), 4 ~{RESET} (in), 5 PD0 (RXD0) (io), 6 VCC (power), 7 PD1 (TXD0) (io), 8 PD2 (INT0/XCK1) (io), 9 PD3 (INT1/ICP3) (io), 10 PD4 (TOSC1/XCK0/OC3A) (io), 11 PD5 (OC1A/TOSC2) (io), 12 PD6 (~{WR}) (io), 13 PD7 (~{RD}) (io), 14 XTAL2, 15 XTAL1, 16 GND (power), 17 VCC (power), 18 PC0 (A8/PCINT8) (io), 19 PC1 (A9/PCINT9) (io), 20 PC2 (A10/PCINT10) (io), 21 PC3 (A11/PCINT11) (io), 22 PC4 (TCK/A12/PCINT12) (io), 23 PC5 (A13/TMS/PCINT13) (io), 24 PC6 (A14/TDO/PCINT14) (io), 25 PC7 (A15/TDI/PCINT15) (io), 26 PE2 (OC1B) (io), 27 PE1 (ALE) (io), 28 GND (power), 29 PE0 (ICP1/INT2) (io), 30 PA7 (AD7/PCINT7) (io), 31 PA6 (AD6/PCINT6) (io), 32 PA5 (AD5/PCINT5) (io), 33 PA4 (AD4/PCINT4) (io), 34 PA3 (AD3/PCINT3) (io), 35 PA2 (AD2/PCINT2) (io), 36 PA1 (AD1/PCINT1) (io), 37 PA0 (AD0/PCINT0) (io), 38 VCC (power), 39 GND (power), 40 PB0 (OC0/T0) (io), 41 PB1 (OC2/T1) (io), 42 PB2 (RXD1/AIN0) (io), 43 PB3 (TXD1/AIN1) (io), 44 PB4 (~{SS}/OC3B) (io)

## ATmega162L-8MC
designator U?
8-Bit AVR Microcontroller with 16K Bytes of In-System Programmable Flash Memory; Published: 26-May-2004; LatestRevisionDate: 13-Apr-2006; LatestRevisionNote: IPC-7351 Footprint Added.; DatasheetVersion: 2513C-AVR-09/02; PackageVersion: revB, Aug-2001; PackageReference: 44M1; Publisher: Altium Limited; PackageDescription: 44-Pin Quad Flat No-Lead 0.5 mm Pitch; Code_JEDEC: MO-220-VKKD-1; ComponentLink1Description: Manufacturer Link; ComponentLink1URL: http://www.atmel.com; ComponentLink2Description: Datasheet; ComponentLink2URL: http://www.atmel.com/dyn/resources/prod_documents/doc2513.pdf
footprint 44M1_N (QFN, 44-Leads, Body 7x7mm, Pitch 0.5mm, IPC Medium Density)
footprint 44M1_L (QFN, 44-Leads, Body 7x7mm, Pitch 0.5mm, IPC High Density)
footprint 44M1_M (QFN, 44-Leads, Body 7x7mm, Pitch 0.5mm, IPC Low Density)
pins: 1 PB5 (MOSI) (io), 2 PB6 (MISO) (io), 3 PB7 (SCK) (io), 4 ~{RESET} (in), 5 PD0 (RXD0) (io), 6 VCC (power), 7 PD1 (TXD0) (io), 8 PD2 (INT0/XCK1) (io), 9 PD3 (INT1/ICP3) (io), 10 PD4 (TOSC1/XCK0/OC3A) (io), 11 PD5 (OC1A/TOSC2) (io), 12 PD6 (~{WR}) (io), 13 PD7 (~{RD}) (io), 14 XTAL2, 15 XTAL1, 16 GND (power), 17 VCC (power), 18 PC0 (A8/PCINT8) (io), 19 PC1 (A9/PCINT9) (io), 20 PC2 (A10/PCINT10) (io), 21 PC3 (A11/PCINT11) (io), 22 PC4 (TCK/A12/PCINT12) (io), 23 PC5 (A13/TMS/PCINT13) (io), 24 PC6 (A14/TDO/PCINT14) (io), 25 PC7 (A15/TDI/PCINT15) (io), 26 PE2 (OC1B) (io), 27 PE1 (ALE) (io), 28 GND (power), 29 PE0 (ICP1/INT2) (io), 30 PA7 (AD7/PCINT7) (io), 31 PA6 (AD6/PCINT6) (io), 32 PA5 (AD5/PCINT5) (io), 33 PA4 (AD4/PCINT4) (io), 34 PA3 (AD3/PCINT3) (io), 35 PA2 (AD2/PCINT2) (io), 36 PA1 (AD1/PCINT1) (io), 37 PA0 (AD0/PCINT0) (io), 38 VCC (power), 39 GND (power), 40 PB0 (OC0/T0) (io), 41 PB1 (OC2/T1) (io), 42 PB2 (RXD1/AIN0) (io), 43 PB3 (TXD1/AIN1) (io), 44 PB4 (~{SS}/OC3B) (io), 45 Thermal Pad (power)

## ATmega162L-8MI
designator U?
8-Bit AVR Microcontroller with 16K Bytes of In-System Programmable Flash Memory; Published: 26-May-2004; LatestRevisionDate: 13-Apr-2006; LatestRevisionNote: IPC-7351 Footprint Added.; DatasheetVersion: 2513C-AVR-09/02; PackageVersion: revB, Aug-2001; PackageReference: 44M1; Publisher: Altium Limited; PackageDescription: 44-Pin Quad Flat No-Lead 0.5 mm Pitch; Code_JEDEC: MO-220-VKKD-1; ComponentLink1Description: Manufacturer Link; ComponentLink1URL: http://www.atmel.com; ComponentLink2Description: Datasheet; ComponentLink2URL: http://www.atmel.com/dyn/resources/prod_documents/doc2513.pdf
footprint 44M1_N (QFN, 44-Leads, Body 7x7mm, Pitch 0.5mm, IPC Medium Density)
footprint 44M1_L (QFN, 44-Leads, Body 7x7mm, Pitch 0.5mm, IPC High Density)
footprint 44M1_M (QFN, 44-Leads, Body 7x7mm, Pitch 0.5mm, IPC Low Density)
pins: 1 PB5 (MOSI) (io), 2 PB6 (MISO) (io), 3 PB7 (SCK) (io), 4 ~{RESET} (in), 5 PD0 (RXD0) (io), 6 VCC (power), 7 PD1 (TXD0) (io), 8 PD2 (INT0/XCK1) (io), 9 PD3 (INT1/ICP3) (io), 10 PD4 (TOSC1/XCK0/OC3A) (io), 11 PD5 (OC1A/TOSC2) (io), 12 PD6 (~{WR}) (io), 13 PD7 (~{RD}) (io), 14 XTAL2, 15 XTAL1, 16 GND (power), 17 VCC (power), 18 PC0 (A8/PCINT8) (io), 19 PC1 (A9/PCINT9) (io), 20 PC2 (A10/PCINT10) (io), 21 PC3 (A11/PCINT11) (io), 22 PC4 (TCK/A12/PCINT12) (io), 23 PC5 (A13/TMS/PCINT13) (io), 24 PC6 (A14/TDO/PCINT14) (io), 25 PC7 (A15/TDI/PCINT15) (io), 26 PE2 (OC1B) (io), 27 PE1 (ALE) (io), 28 GND (power), 29 PE0 (ICP1/INT2) (io), 30 PA7 (AD7/PCINT7) (io), 31 PA6 (AD6/PCINT6) (io), 32 PA5 (AD5/PCINT5) (io), 33 PA4 (AD4/PCINT4) (io), 34 PA3 (AD3/PCINT3) (io), 35 PA2 (AD2/PCINT2) (io), 36 PA1 (AD1/PCINT1) (io), 37 PA0 (AD0/PCINT0) (io), 38 VCC (power), 39 GND (power), 40 PB0 (OC0/T0) (io), 41 PB1 (OC2/T1) (io), 42 PB2 (RXD1/AIN0) (io), 43 PB3 (TXD1/AIN1) (io), 44 PB4 (~{SS}/OC3B) (io), 45 Thermal Pad (power)

## ATmega162L-8PC
designator U?
8-Bit AVR Microcontroller with 16K Bytes of In-System Programmable Flash Memory; Published: 17-Sep-2003; LatestRevisionDate: 04-Mar-2005; LatestRevisionNote: Stylized 3D Model Added.; DatasheetVersion: 2513C-AVR-09/02; PackageVersion: Dec-1999; PackageReference: 40P6; Publisher: Altium Limited; PackageDescription: DIP; 40 Leads; Row Spacing 15.24 mm; Pitch 2.54 mm; ComponentLink1Description: Manufacturer Link; ComponentLink1URL: http://www.atmel.com; ComponentLink2Description: Datasheet; ComponentLink2URL: http://www.atmel.com/dyn/resources/prod_documents/doc2513.pdf
footprint 40P6 (DIP; 40 Leads; Row Spacing 15.24 mm; Pitch 2.54 mm)
3D model 40P6 (DIP; 40 Leads; Row Spacing 15.24 mm; Pitch 2.54 mm)
pins: 1 PB0 (OC0/T0) (io), 2 PB1 (OC2/T1) (io), 3 PB2 (RXD1/AIN0) (io), 4 PB3 (TXD1/AIN1) (io), 5 PB4 (~{SS}/OC3B) (io), 6 PB5 (MOSI) (io), 7 PB6 (MISO) (io), 8 PB7 (SCK) (io), 9 ~{RESET} (in), 10 PD0 (RXD0) (io), 11 PD1 (TXD0) (io), 12 PD2 (INT0/XCK1) (io), 13 PD3 (INT1/ICP3) (io), 14 PD4 (TOSC1/XCK0/OC3A) (io), 15 PD5 (OC1A/TOSC2) (io), 16 PD6 (~{WR}) (io), 17 PD7 (~{RD}) (io), 18 XTAL2, 19 XTAL1, 20 GND (power), 21 PC0 (A8/PCINT8) (io), 22 PC1 (A9/PCINT9) (io), 23 PC2 (A10/PCINT10) (io), 24 PC3 (A11/PCINT11) (io), 25 PC4 (A12/TCK/PCINT12) (io), 26 PC5 (A13/TMS/PCINT13) (io), 27 PC6 (A14/TDO/PCINT14) (io), 28 PC7 (A15/TDI/PCINT15) (io), 29 PE2 (OC1B) (io), 30 PE1 (ALE) (io), 31 PE0 (ICP1/INT2) (io), 32 PA7 (AD7/PCINT7) (io), 33 PA6 (AD6/PCINT6) (io), 34 PA5 (AD5/PCINT5) (io), 35 PA4 (AD4/PCINT4) (io), 36 PA3 (AD3/PCINT3) (io), 37 PA2 (AD2/PCINT2) (io), 38 PA1 (AD1/PCINT1) (io), 39 PA0 (AD0/PCINT0) (io), 40 VCC (power)

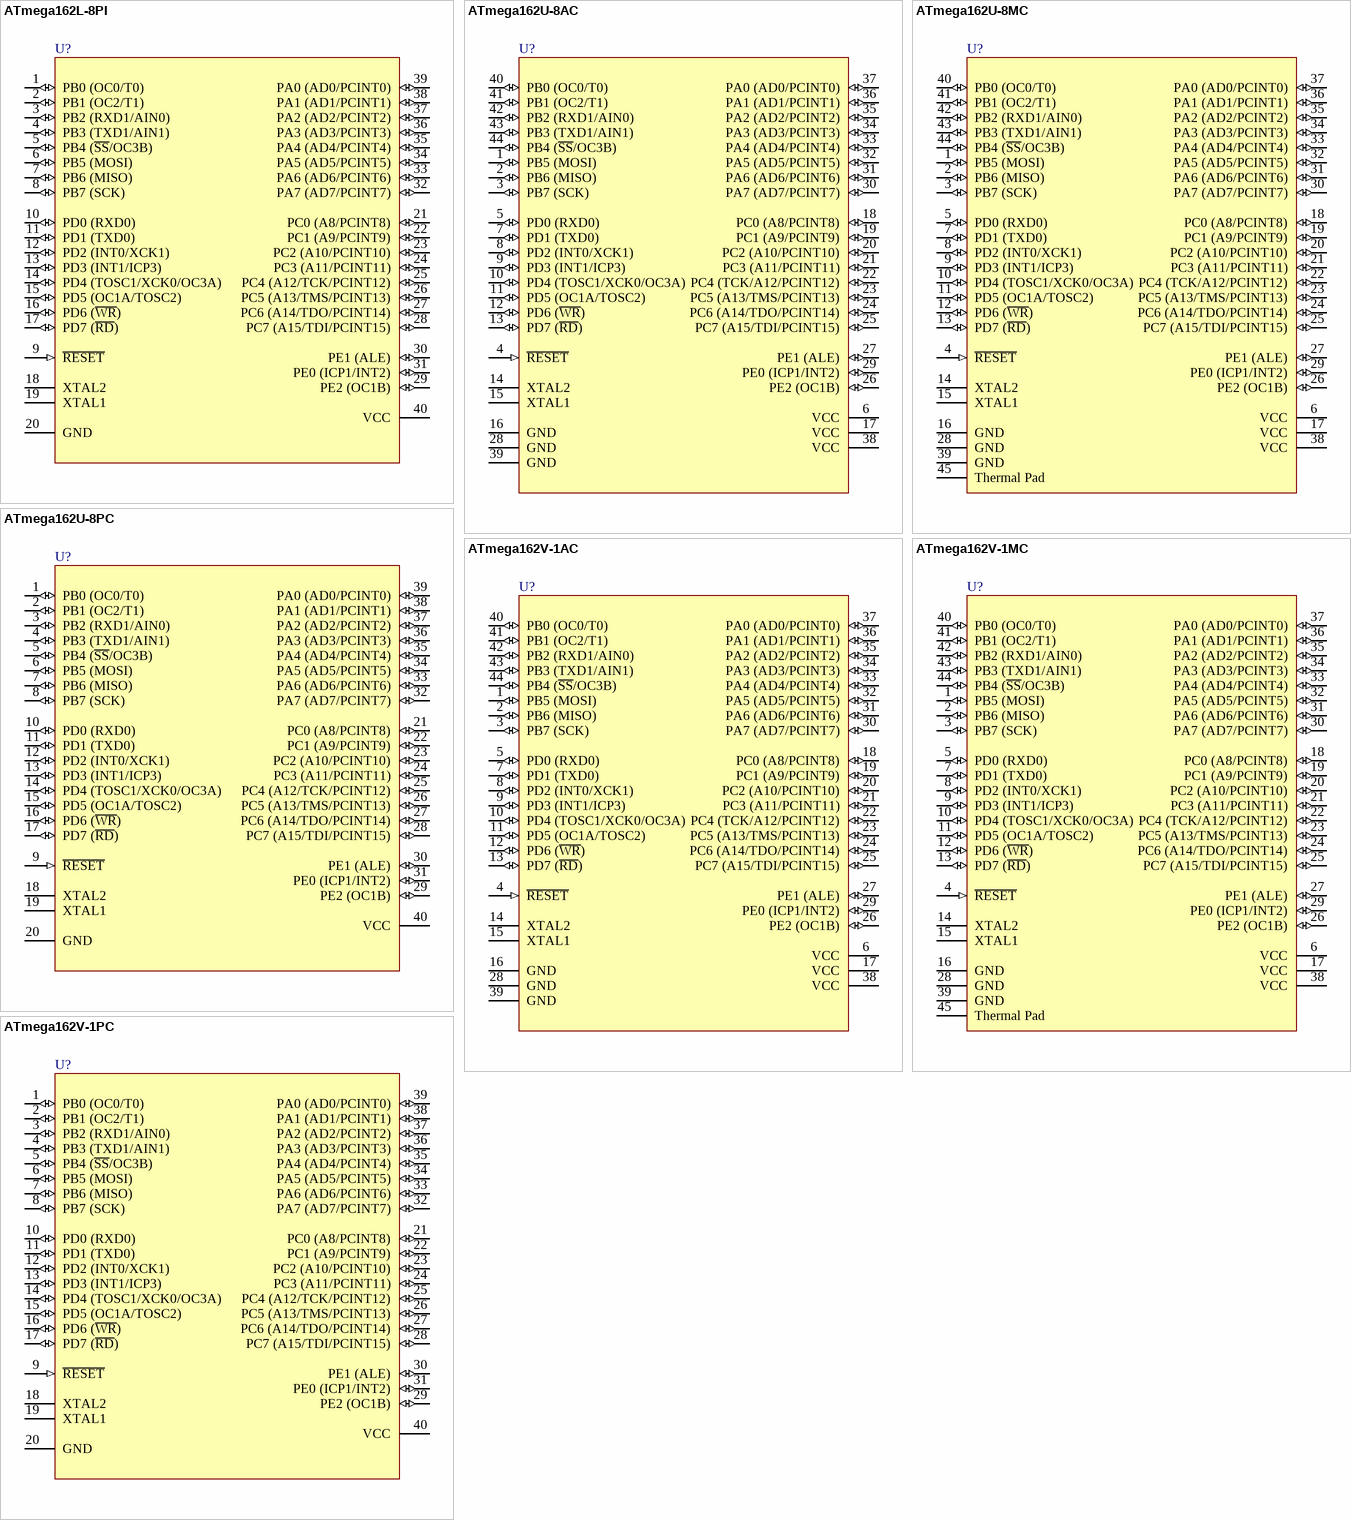
[diagram p12: symbols ATmega162L-8PI to ATmega162V-1PC]

## ATmega162L-8PI
designator U?
8-Bit AVR Microcontroller with 16K Bytes of In-System Programmable Flash Memory; Published: 17-Sep-2003; LatestRevisionDate: 04-Mar-2005; LatestRevisionNote: Stylized 3D Model Added.; DatasheetVersion: 2513C-AVR-09/02; PackageVersion: Dec-1999; PackageReference: 40P6; Publisher: Altium Limited; PackageDescription: DIP; 40 Leads; Row Spacing 15.24 mm; Pitch 2.54 mm; ComponentLink1Description: Manufacturer Link; ComponentLink1URL: http://www.atmel.com; ComponentLink2Description: Datasheet; ComponentLink2URL: http://www.atmel.com/dyn/resources/prod_documents/doc2513.pdf
footprint 40P6 (DIP; 40 Leads; Row Spacing 15.24 mm; Pitch 2.54 mm)
3D model 40P6 (DIP; 40 Leads; Row Spacing 15.24 mm; Pitch 2.54 mm)
pins: 1 PB0 (OC0/T0) (io), 2 PB1 (OC2/T1) (io), 3 PB2 (RXD1/AIN0) (io), 4 PB3 (TXD1/AIN1) (io), 5 PB4 (~{SS}/OC3B) (io), 6 PB5 (MOSI) (io), 7 PB6 (MISO) (io), 8 PB7 (SCK) (io), 9 ~{RESET} (in), 10 PD0 (RXD0) (io), 11 PD1 (TXD0) (io), 12 PD2 (INT0/XCK1) (io), 13 PD3 (INT1/ICP3) (io), 14 PD4 (TOSC1/XCK0/OC3A) (io), 15 PD5 (OC1A/TOSC2) (io), 16 PD6 (~{WR}) (io), 17 PD7 (~{RD}) (io), 18 XTAL2, 19 XTAL1, 20 GND (power), 21 PC0 (A8/PCINT8) (io), 22 PC1 (A9/PCINT9) (io), 23 PC2 (A10/PCINT10) (io), 24 PC3 (A11/PCINT11) (io), 25 PC4 (A12/TCK/PCINT12) (io), 26 PC5 (A13/TMS/PCINT13) (io), 27 PC6 (A14/TDO/PCINT14) (io), 28 PC7 (A15/TDI/PCINT15) (io), 29 PE2 (OC1B) (io), 30 PE1 (ALE) (io), 31 PE0 (ICP1/INT2) (io), 32 PA7 (AD7/PCINT7) (io), 33 PA6 (AD6/PCINT6) (io), 34 PA5 (AD5/PCINT5) (io), 35 PA4 (AD4/PCINT4) (io), 36 PA3 (AD3/PCINT3) (io), 37 PA2 (AD2/PCINT2) (io), 38 PA1 (AD1/PCINT1) (io), 39 PA0 (AD0/PCINT0) (io), 40 VCC (power)

## ATmega162U-8AC
designator U?
8-Bit AVR Microcontroller with 16K Bytes of In-System Programmable Flash Memory; Published: 17-Sep-2003; LatestRevisionDate: 13-Apr-2006; LatestRevisionNote: IPC-7351 Footprint Added.; DatasheetVersion: 2513C-AVR-09/02; PackageVersion: rev.B, Oct-2001; PackageReference: 44A; Publisher: Altium Limited; PackageDescription: 44-Pin Thin Quad Flat Pack 0.8 mm Pitch; ComponentLink1Description: Manufacturer Link; ComponentLink1URL: http://www.atmel.com; ComponentLink2Description: Datasheet; ComponentLink2URL: http://www.atmel.com/dyn/resources/prod_documents/doc2513.pdf
footprint 44A_N (Thin QFP, 44-Leads, Body 10x10mm, Pitch 0.8mm, IPC Medium Density)
footprint 44A_L (Thin QFP, 44-Leads, Body 10x10mm, Pitch 0.8mm, IPC High Density)
footprint 44A_M (Thin QFP, 44-Leads, Body 10x10mm, Pitch 0.8mm, IPC Low Density)
3D model ATMEGA162U-44A (44-Pin Thin Quad Flat Pack 0.8 mm Pitch)
pins: 1 PB5 (MOSI) (io), 2 PB6 (MISO) (io), 3 PB7 (SCK) (io), 4 ~{RESET} (in), 5 PD0 (RXD0) (io), 6 VCC (power), 7 PD1 (TXD0) (io), 8 PD2 (INT0/XCK1) (io), 9 PD3 (INT1/ICP3) (io), 10 PD4 (TOSC1/XCK0/OC3A) (io), 11 PD5 (OC1A/TOSC2) (io), 12 PD6 (~{WR}) (io), 13 PD7 (~{RD}) (io), 14 XTAL2, 15 XTAL1, 16 GND (power), 17 VCC (power), 18 PC0 (A8/PCINT8) (io), 19 PC1 (A9/PCINT9) (io), 20 PC2 (A10/PCINT10) (io), 21 PC3 (A11/PCINT11) (io), 22 PC4 (TCK/A12/PCINT12) (io), 23 PC5 (A13/TMS/PCINT13) (io), 24 PC6 (A14/TDO/PCINT14) (io), 25 PC7 (A15/TDI/PCINT15) (io), 26 PE2 (OC1B) (io), 27 PE1 (ALE) (io), 28 GND (power), 29 PE0 (ICP1/INT2) (io), 30 PA7 (AD7/PCINT7) (io), 31 PA6 (AD6/PCINT6) (io), 32 PA5 (AD5/PCINT5) (io), 33 PA4 (AD4/PCINT4) (io), 34 PA3 (AD3/PCINT3) (io), 35 PA2 (AD2/PCINT2) (io), 36 PA1 (AD1/PCINT1) (io), 37 PA0 (AD0/PCINT0) (io), 38 VCC (power), 39 GND (power), 40 PB0 (OC0/T0) (io), 41 PB1 (OC2/T1) (io), 42 PB2 (RXD1/AIN0) (io), 43 PB3 (TXD1/AIN1) (io), 44 PB4 (~{SS}/OC3B) (io)

## ATmega162U-8MC
designator U?
8-Bit AVR Microcontroller with 16K Bytes of In-System Programmable Flash Memory; Published: 26-May-2004; LatestRevisionDate: 13-Apr-2006; LatestRevisionNote: IPC-7351 Footprint Added.; DatasheetVersion: 2513C-AVR-09/02; PackageVersion: revB, Aug-2001; PackageReference: 44M1; Publisher: Altium Limited; PackageDescription: 44-Pin Quad Flat No-Lead 0.5 mm Pitch; Code_JEDEC: MO-220-VKKD-1; ComponentLink1Description: Manufacturer Link; ComponentLink1URL: http://www.atmel.com; ComponentLink2Description: Datasheet; ComponentLink2URL: http://www.atmel.com/dyn/resources/prod_documents/doc2513.pdf
footprint 44M1_N (QFN, 44-Leads, Body 7x7mm, Pitch 0.5mm, IPC Medium Density)
footprint 44M1_L (QFN, 44-Leads, Body 7x7mm, Pitch 0.5mm, IPC High Density)
footprint 44M1_M (QFN, 44-Leads, Body 7x7mm, Pitch 0.5mm, IPC Low Density)
pins: 1 PB5 (MOSI) (io), 2 PB6 (MISO) (io), 3 PB7 (SCK) (io), 4 ~{RESET} (in), 5 PD0 (RXD0) (io), 6 VCC (power), 7 PD1 (TXD0) (io), 8 PD2 (INT0/XCK1) (io), 9 PD3 (INT1/ICP3) (io), 10 PD4 (TOSC1/XCK0/OC3A) (io), 11 PD5 (OC1A/TOSC2) (io), 12 PD6 (~{WR}) (io), 13 PD7 (~{RD}) (io), 14 XTAL2, 15 XTAL1, 16 GND (power), 17 VCC (power), 18 PC0 (A8/PCINT8) (io), 19 PC1 (A9/PCINT9) (io), 20 PC2 (A10/PCINT10) (io), 21 PC3 (A11/PCINT11) (io), 22 PC4 (TCK/A12/PCINT12) (io), 23 PC5 (A13/TMS/PCINT13) (io), 24 PC6 (A14/TDO/PCINT14) (io), 25 PC7 (A15/TDI/PCINT15) (io), 26 PE2 (OC1B) (io), 27 PE1 (ALE) (io), 28 GND (power), 29 PE0 (ICP1/INT2) (io), 30 PA7 (AD7/PCINT7) (io), 31 PA6 (AD6/PCINT6) (io), 32 PA5 (AD5/PCINT5) (io), 33 PA4 (AD4/PCINT4) (io), 34 PA3 (AD3/PCINT3) (io), 35 PA2 (AD2/PCINT2) (io), 36 PA1 (AD1/PCINT1) (io), 37 PA0 (AD0/PCINT0) (io), 38 VCC (power), 39 GND (power), 40 PB0 (OC0/T0) (io), 41 PB1 (OC2/T1) (io), 42 PB2 (RXD1/AIN0) (io), 43 PB3 (TXD1/AIN1) (io), 44 PB4 (~{SS}/OC3B) (io), 45 Thermal Pad (power)

## ATmega162U-8PC
designator U?
8-Bit AVR Microcontroller with 16K Bytes of In-System Programmable Flash Memory; Published: 17-Sep-2003; LatestRevisionDate: 04-Mar-2005; LatestRevisionNote: Stylized 3D Model Added.; DatasheetVersion: 2513C-AVR-09/02; PackageVersion: Dec-1999; PackageReference: 40P6; Publisher: Altium Limited; PackageDescription: DIP; 40 Leads; Row Spacing 15.24 mm; Pitch 2.54 mm; ComponentLink1Description: Manufacturer Link; ComponentLink1URL: http://www.atmel.com; ComponentLink2Description: Datasheet; ComponentLink2URL: http://www.atmel.com/dyn/resources/prod_documents/doc2513.pdf
footprint 40P6 (DIP; 40 Leads; Row Spacing 15.24 mm; Pitch 2.54 mm)
3D model 40P6 (DIP; 40 Leads; Row Spacing 15.24 mm; Pitch 2.54 mm)
pins: 1 PB0 (OC0/T0) (io), 2 PB1 (OC2/T1) (io), 3 PB2 (RXD1/AIN0) (io), 4 PB3 (TXD1/AIN1) (io), 5 PB4 (~{SS}/OC3B) (io), 6 PB5 (MOSI) (io), 7 PB6 (MISO) (io), 8 PB7 (SCK) (io), 9 ~{RESET} (in), 10 PD0 (RXD0) (io), 11 PD1 (TXD0) (io), 12 PD2 (INT0/XCK1) (io), 13 PD3 (INT1/ICP3) (io), 14 PD4 (TOSC1/XCK0/OC3A) (io), 15 PD5 (OC1A/TOSC2) (io), 16 PD6 (~{WR}) (io), 17 PD7 (~{RD}) (io), 18 XTAL2, 19 XTAL1, 20 GND (power), 21 PC0 (A8/PCINT8) (io), 22 PC1 (A9/PCINT9) (io), 23 PC2 (A10/PCINT10) (io), 24 PC3 (A11/PCINT11) (io), 25 PC4 (A12/TCK/PCINT12) (io), 26 PC5 (A13/TMS/PCINT13) (io), 27 PC6 (A14/TDO/PCINT14) (io), 28 PC7 (A15/TDI/PCINT15) (io), 29 PE2 (OC1B) (io), 30 PE1 (ALE) (io), 31 PE0 (ICP1/INT2) (io), 32 PA7 (AD7/PCINT7) (io), 33 PA6 (AD6/PCINT6) (io), 34 PA5 (AD5/PCINT5) (io), 35 PA4 (AD4/PCINT4) (io), 36 PA3 (AD3/PCINT3) (io), 37 PA2 (AD2/PCINT2) (io), 38 PA1 (AD1/PCINT1) (io), 39 PA0 (AD0/PCINT0) (io), 40 VCC (power)

## ATmega162V-1AC
designator U?
8-Bit AVR Microcontroller with 16K Bytes of In-System Programmable Flash Memory; Published: 17-Sep-2003; LatestRevisionDate: 13-Apr-2006; LatestRevisionNote: IPC-7351 Footprint Added.; DatasheetVersion: 2513C-AVR-09/02; PackageVersion: rev.B, Oct-2001; PackageReference: 44A; Publisher: Altium Limited; PackageDescription: 44-Pin Thin Quad Flat Pack 0.8 mm Pitch; ComponentLink1Description: Manufacturer Link; ComponentLink1URL: http://www.atmel.com; ComponentLink2Description: Datasheet; ComponentLink2URL: http://www.atmel.com/dyn/resources/prod_documents/doc2513.pdf
footprint 44A_N (Thin QFP, 44-Leads, Body 10x10mm, Pitch 0.8mm, IPC Medium Density)
footprint 44A_L (Thin QFP, 44-Leads, Body 10x10mm, Pitch 0.8mm, IPC High Density)
footprint 44A_M (Thin QFP, 44-Leads, Body 10x10mm, Pitch 0.8mm, IPC Low Density)
3D model ATMEGA162V-44A (44-Pin Thin Quad Flat Pack 0.8 mm Pitch)
pins: 1 PB5 (MOSI) (io), 2 PB6 (MISO) (io), 3 PB7 (SCK) (io), 4 ~{RESET} (in), 5 PD0 (RXD0) (io), 6 VCC (power), 7 PD1 (TXD0) (io), 8 PD2 (INT0/XCK1) (io), 9 PD3 (INT1/ICP3) (io), 10 PD4 (TOSC1/XCK0/OC3A) (io), 11 PD5 (OC1A/TOSC2) (io), 12 PD6 (~{WR}) (io), 13 PD7 (~{RD}) (io), 14 XTAL2, 15 XTAL1, 16 GND (power), 17 VCC (power), 18 PC0 (A8/PCINT8) (io), 19 PC1 (A9/PCINT9) (io), 20 PC2 (A10/PCINT10) (io), 21 PC3 (A11/PCINT11) (io), 22 PC4 (TCK/A12/PCINT12) (io), 23 PC5 (A13/TMS/PCINT13) (io), 24 PC6 (A14/TDO/PCINT14) (io), 25 PC7 (A15/TDI/PCINT15) (io), 26 PE2 (OC1B) (io), 27 PE1 (ALE) (io), 28 GND (power), 29 PE0 (ICP1/INT2) (io), 30 PA7 (AD7/PCINT7) (io), 31 PA6 (AD6/PCINT6) (io), 32 PA5 (AD5/PCINT5) (io), 33 PA4 (AD4/PCINT4) (io), 34 PA3 (AD3/PCINT3) (io), 35 PA2 (AD2/PCINT2) (io), 36 PA1 (AD1/PCINT1) (io), 37 PA0 (AD0/PCINT0) (io), 38 VCC (power), 39 GND (power), 40 PB0 (OC0/T0) (io), 41 PB1 (OC2/T1) (io), 42 PB2 (RXD1/AIN0) (io), 43 PB3 (TXD1/AIN1) (io), 44 PB4 (~{SS}/OC3B) (io)

## ATmega162V-1MC
designator U?
8-Bit AVR Microcontroller with 16K Bytes of In-System Programmable Flash Memory; Published: 26-May-2004; LatestRevisionDate: 13-Apr-2006; LatestRevisionNote: IPC-7351 Footprint Added.; DatasheetVersion: 2513C-AVR-09/02; PackageVersion: revB, Aug-2001; PackageReference: 44M1; Publisher: Altium Limited; PackageDescription: 44-Pin Quad Flat No-Lead 0.5 mm Pitch; Code_JEDEC: MO-220-VKKD-1; ComponentLink1Description: Manufacturer Link; ComponentLink1URL: http://www.atmel.com; ComponentLink2Description: Datasheet; ComponentLink2URL: http://www.atmel.com/dyn/resources/prod_documents/doc2513.pdf
footprint 44M1_N (QFN, 44-Leads, Body 7x7mm, Pitch 0.5mm, IPC Medium Density)
footprint 44M1_L (QFN, 44-Leads, Body 7x7mm, Pitch 0.5mm, IPC High Density)
footprint 44M1_M (QFN, 44-Leads, Body 7x7mm, Pitch 0.5mm, IPC Low Density)
pins: 1 PB5 (MOSI) (io), 2 PB6 (MISO) (io), 3 PB7 (SCK) (io), 4 ~{RESET} (in), 5 PD0 (RXD0) (io), 6 VCC (power), 7 PD1 (TXD0) (io), 8 PD2 (INT0/XCK1) (io), 9 PD3 (INT1/ICP3) (io), 10 PD4 (TOSC1/XCK0/OC3A) (io), 11 PD5 (OC1A/TOSC2) (io), 12 PD6 (~{WR}) (io), 13 PD7 (~{RD}) (io), 14 XTAL2, 15 XTAL1, 16 GND (power), 17 VCC (power), 18 PC0 (A8/PCINT8) (io), 19 PC1 (A9/PCINT9) (io), 20 PC2 (A10/PCINT10) (io), 21 PC3 (A11/PCINT11) (io), 22 PC4 (TCK/A12/PCINT12) (io), 23 PC5 (A13/TMS/PCINT13) (io), 24 PC6 (A14/TDO/PCINT14) (io), 25 PC7 (A15/TDI/PCINT15) (io), 26 PE2 (OC1B) (io), 27 PE1 (ALE) (io), 28 GND (power), 29 PE0 (ICP1/INT2) (io), 30 PA7 (AD7/PCINT7) (io), 31 PA6 (AD6/PCINT6) (io), 32 PA5 (AD5/PCINT5) (io), 33 PA4 (AD4/PCINT4) (io), 34 PA3 (AD3/PCINT3) (io), 35 PA2 (AD2/PCINT2) (io), 36 PA1 (AD1/PCINT1) (io), 37 PA0 (AD0/PCINT0) (io), 38 VCC (power), 39 GND (power), 40 PB0 (OC0/T0) (io), 41 PB1 (OC2/T1) (io), 42 PB2 (RXD1/AIN0) (io), 43 PB3 (TXD1/AIN1) (io), 44 PB4 (~{SS}/OC3B) (io), 45 Thermal Pad (power)

## ATmega162V-1PC
designator U?
8-Bit AVR Microcontroller with 16K Bytes of In-System Programmable Flash Memory; Published: 17-Sep-2003; LatestRevisionDate: 04-Mar-2005; LatestRevisionNote: Stylized 3D Model Added.; DatasheetVersion: 2513C-AVR-09/02; PackageVersion: Dec-1999; PackageReference: 40P6; Publisher: Altium Limited; PackageDescription: DIP; 40 Leads; Row Spacing 15.24 mm; Pitch 2.54 mm; ComponentLink1Description: Manufacturer Link; ComponentLink1URL: http://www.atmel.com; ComponentLink2Description: Datasheet; ComponentLink2URL: http://www.atmel.com/dyn/resources/prod_documents/doc2513.pdf
footprint 40P6 (DIP; 40 Leads; Row Spacing 15.24 mm; Pitch 2.54 mm)
3D model 40P6 (DIP; 40 Leads; Row Spacing 15.24 mm; Pitch 2.54 mm)
pins: 1 PB0 (OC0/T0) (io), 2 PB1 (OC2/T1) (io), 3 PB2 (RXD1/AIN0) (io), 4 PB3 (TXD1/AIN1) (io), 5 PB4 (~{SS}/OC3B) (io), 6 PB5 (MOSI) (io), 7 PB6 (MISO) (io), 8 PB7 (SCK) (io), 9 ~{RESET} (in), 10 PD0 (RXD0) (io), 11 PD1 (TXD0) (io), 12 PD2 (INT0/XCK1) (io), 13 PD3 (INT1/ICP3) (io), 14 PD4 (TOSC1/XCK0/OC3A) (io), 15 PD5 (OC1A/TOSC2) (io), 16 PD6 (~{WR}) (io), 17 PD7 (~{RD}) (io), 18 XTAL2, 19 XTAL1, 20 GND (power), 21 PC0 (A8/PCINT8) (io), 22 PC1 (A9/PCINT9) (io), 23 PC2 (A10/PCINT10) (io), 24 PC3 (A11/PCINT11) (io), 25 PC4 (A12/TCK/PCINT12) (io), 26 PC5 (A13/TMS/PCINT13) (io), 27 PC6 (A14/TDO/PCINT14) (io), 28 PC7 (A15/TDI/PCINT15) (io), 29 PE2 (OC1B) (io), 30 PE1 (ALE) (io), 31 PE0 (ICP1/INT2) (io), 32 PA7 (AD7/PCINT7) (io), 33 PA6 (AD6/PCINT6) (io), 34 PA5 (AD5/PCINT5) (io), 35 PA4 (AD4/PCINT4) (io), 36 PA3 (AD3/PCINT3) (io), 37 PA2 (AD2/PCINT2) (io), 38 PA1 (AD1/PCINT1) (io), 39 PA0 (AD0/PCINT0) (io), 40 VCC (power)

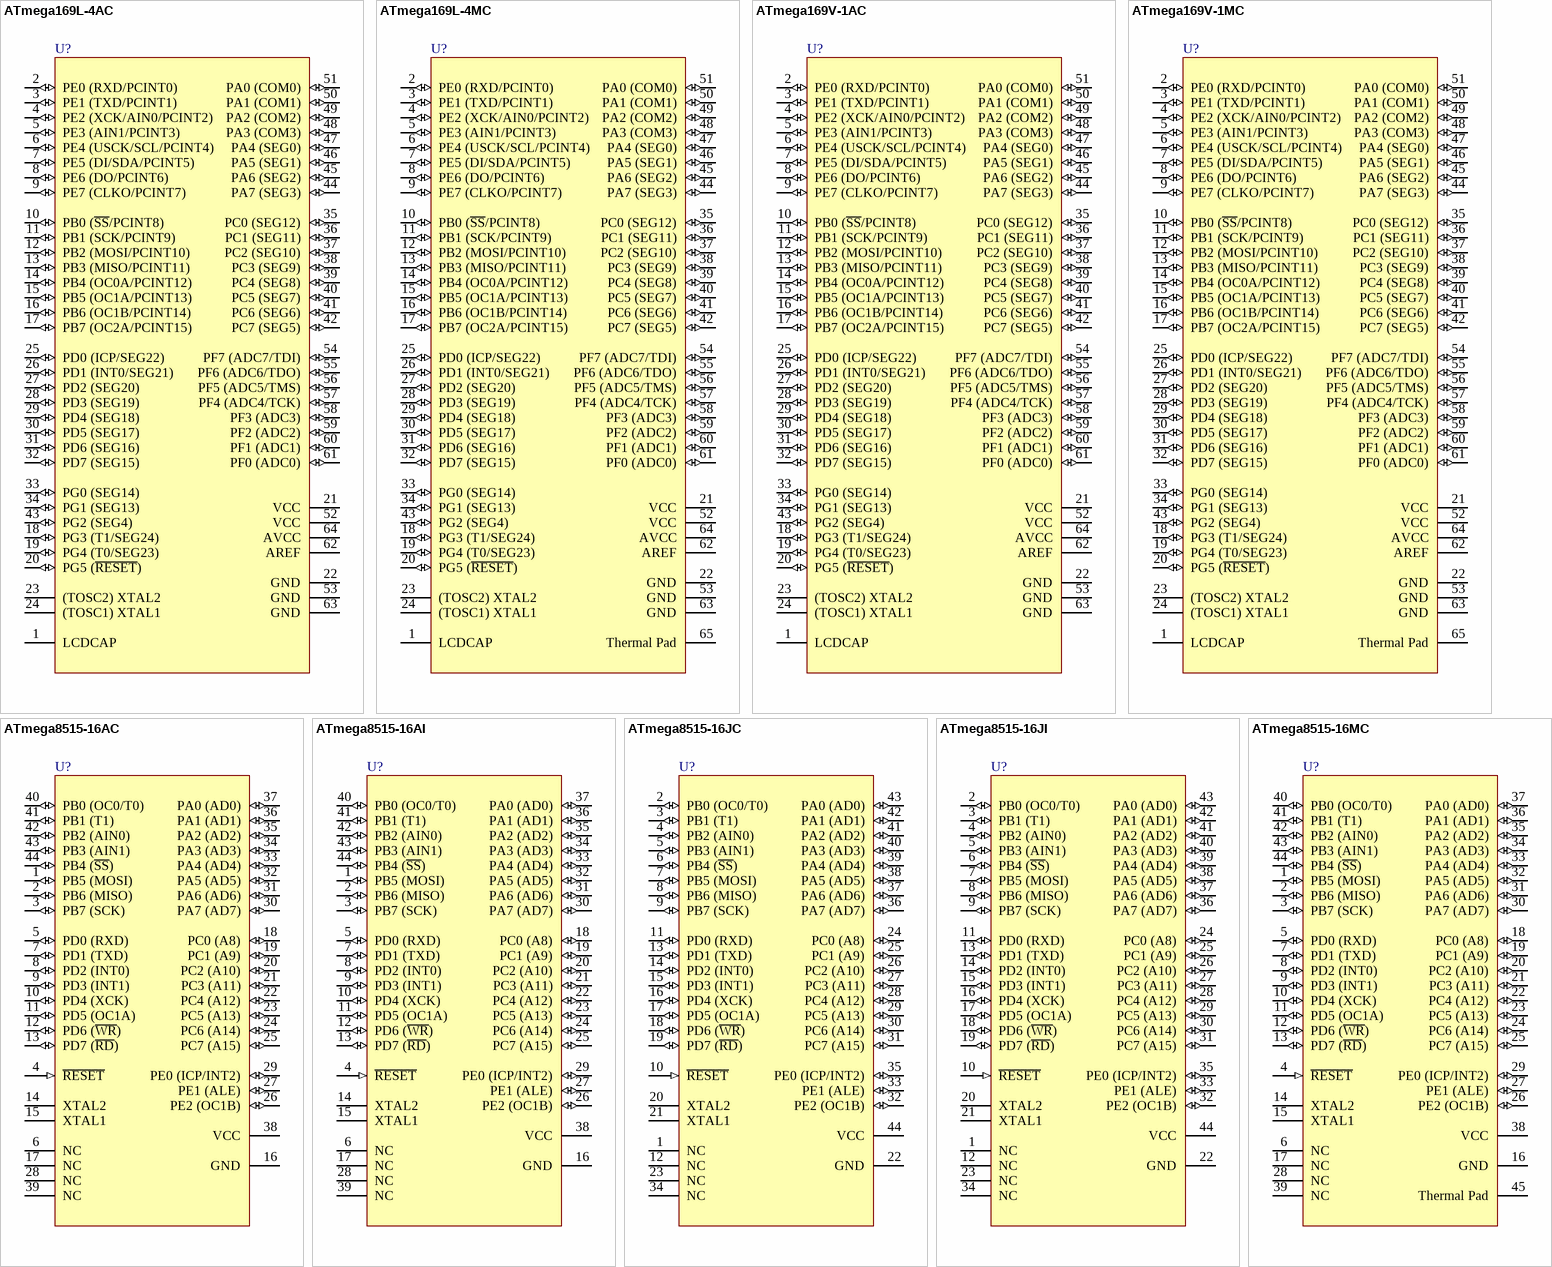
[diagram p13: symbols ATmega169L-4AC to ATmega8515-16MC]

## ATmega169L-4AC
designator U?
8-Bit AVR Microcontroller with 16K Bytes of In-System Programmable Flash Memory; Published: 17-Sep-2003; LatestRevisionDate: 13-Apr-2006; LatestRevisionNote: IPC-7351 Footprint Added.; DatasheetVersion: 2514C-AVR-11/02; PackageVersion: revB, Oct-2001; PackageReference: 64A; Publisher: Altium Limited; PackageDescription: 64-Pin Thin Quad Flat Pack 0.8 mm Pitch; Code_JEDEC: MS-026-AEB; ComponentLink1Description: Manufacturer Link; ComponentLink1URL: http://www.atmel.com; ComponentLink2Description: Datasheet; ComponentLink2URL: http://www.atmel.com/dyn/resources/prod_documents/doc2514.pdf
footprint 64A_N (Thin QFP, 64-Leads, Body 14x14mm, Pitch 0.8mm, IPC Medium Density)
footprint 64A_L (Thin QFP, 64-Leads, Body 14x14mm, Pitch 0.8mm, IPC High Density)
footprint 64A_M (Thin QFP, 64-Leads, Body 14x14mm, Pitch 0.8mm, IPC Low Density)
3D model ATMEGA169L-64A (64-Pin Thin Quad Flat Pack 0.8 mm Pitch)
pins: 1 LCDCAP, 2 PE0 (RXD/PCINT0) (io), 3 PE1 (TXD/PCINT1) (io), 4 PE2 (XCK/AIN0/PCINT2) (io), 5 PE3 (AIN1/PCINT3) (io), 6 PE4 (USCK/SCL/PCINT4) (io), 7 PE5 (DI/SDA/PCINT5) (io), 8 PE6 (DO/PCINT6) (io), 9 PE7 (CLKO/PCINT7) (io), 10 PB0 (~{SS}/PCINT8) (io), 11 PB1 (SCK/PCINT9) (io), 12 PB2 (MOSI/PCINT10) (io), 13 PB3 (MISO/PCINT11) (io), 14 PB4 (OC0A/PCINT12) (io), 15 PB5 (OC1A/PCINT13) (io), 16 PB6 (OC1B/PCINT14) (io), 17 PB7 (OC2A/PCINT15) (io), 18 PG3 (T1/SEG24) (io), 19 PG4 (T0/SEG23) (io), 20 PG5 (~{RESET}) (io), 21 VCC (power), 22 GND (power), 23 (TOSC2) XTAL2, 24 (TOSC1) XTAL1, 25 PD0 (ICP/SEG22) (io), 26 PD1 (INT0/SEG21) (io), 27 PD2 (SEG20) (io), 28 PD3 (SEG19) (io), 29 PD4 (SEG18) (io), 30 PD5 (SEG17) (io), 31 PD6 (SEG16) (io), 32 PD7 (SEG15) (io), 33 PG0 (SEG14) (io), 34 PG1 (SEG13) (io), 35 PC0 (SEG12) (io), 36 PC1 (SEG11) (io), 37 PC2 (SEG10) (io), 38 PC3 (SEG9) (io), 39 PC4 (SEG8) (io), 40 PC5 (SEG7) (io), 41 PC6 (SEG6) (io), 42 PC7 (SEG5) (io), 43 PG2 (SEG4) (io), 44 PA7 (SEG3) (io), 45 PA6 (SEG2) (io), 46 PA5 (SEG1) (io), 47 PA4 (SEG0) (io), 48 PA3 (COM3) (io), 49 PA2 (COM2) (io), 50 PA1 (COM1) (io), 51 PA0 (COM0) (io), 52 VCC (power), 53 GND (power), 54 PF7 (ADC7/TDI) (io), 55 PF6 (ADC6/TDO) (io), 56 PF5 (ADC5/TMS) (io), 57 PF4 (ADC4/TCK) (io), 58 PF3 (ADC3) (io), 59 PF2 (ADC2) (io), 60 PF1 (ADC1) (io), 61 PF0 (ADC0) (io), 62 AREF, 63 GND (power), 64 AVCC (power)

## ATmega169L-4MC
designator U?
8-Bit AVR Microcontroller with 16K Bytes of In-System Programmable Flash Memory; Published: 26-May-2004; LatestRevisionDate: 13-Apr-2006; LatestRevisionNote: IPC-7351 Footprint Added.; DatasheetVersion: 2514C-AVR-11/02; PackageVersion: revB, Aug-2001; PackageReference: 64M1; Publisher: Altium Limited; PackageDescription: 64-Pin Quad Flat No-Lead 0.5 mm Pitch; Code_JEDEC: MO-220-VMMD; ComponentLink1Description: Manufacturer Link; ComponentLink1URL: http://www.atmel.com; ComponentLink2Description: Datasheet; ComponentLink2URL: http://www.atmel.com/dyn/resources/prod_documents/doc2514.pdf
footprint 64M1_N (QFN, 64-Leads, Body 9x9mm, Pitch 0.5mm, IPC Medium Density)
footprint 64M1_L (QFN, 64-Leads, Body 9x9mm, Pitch 0.5mm, IPC High Density)
footprint 64M1_M (QFN, 64-Leads, Body 9x9mm, Pitch 0.5mm, IPC Low Density)
pins: 1 LCDCAP, 2 PE0 (RXD/PCINT0) (io), 3 PE1 (TXD/PCINT1) (io), 4 PE2 (XCK/AIN0/PCINT2) (io), 5 PE3 (AIN1/PCINT3) (io), 6 PE4 (USCK/SCL/PCINT4) (io), 7 PE5 (DI/SDA/PCINT5) (io), 8 PE6 (DO/PCINT6) (io), 9 PE7 (CLKO/PCINT7) (io), 10 PB0 (~{SS}/PCINT8) (io), 11 PB1 (SCK/PCINT9) (io), 12 PB2 (MOSI/PCINT10) (io), 13 PB3 (MISO/PCINT11) (io), 14 PB4 (OC0A/PCINT12) (io), 15 PB5 (OC1A/PCINT13) (io), 16 PB6 (OC1B/PCINT14) (io), 17 PB7 (OC2A/PCINT15) (io), 18 PG3 (T1/SEG24) (io), 19 PG4 (T0/SEG23) (io), 20 PG5 (~{RESET}) (io), 21 VCC (power), 22 GND (power), 23 (TOSC2) XTAL2, 24 (TOSC1) XTAL1, 25 PD0 (ICP/SEG22) (io), 26 PD1 (INT0/SEG21) (io), 27 PD2 (SEG20) (io), 28 PD3 (SEG19) (io), 29 PD4 (SEG18) (io), 30 PD5 (SEG17) (io), 31 PD6 (SEG16) (io), 32 PD7 (SEG15) (io), 33 PG0 (SEG14) (io), 34 PG1 (SEG13) (io), 35 PC0 (SEG12) (io), 36 PC1 (SEG11) (io), 37 PC2 (SEG10) (io), 38 PC3 (SEG9) (io), 39 PC4 (SEG8) (io), 40 PC5 (SEG7) (io), 41 PC6 (SEG6) (io), 42 PC7 (SEG5) (io), 43 PG2 (SEG4) (io), 44 PA7 (SEG3) (io), 45 PA6 (SEG2) (io), 46 PA5 (SEG1) (io), 47 PA4 (SEG0) (io), 48 PA3 (COM3) (io), 49 PA2 (COM2) (io), 50 PA1 (COM1) (io), 51 PA0 (COM0) (io), 52 VCC (power), 53 GND (power), 54 PF7 (ADC7/TDI) (io), 55 PF6 (ADC6/TDO) (io), 56 PF5 (ADC5/TMS) (io), 57 PF4 (ADC4/TCK) (io), 58 PF3 (ADC3) (io), 59 PF2 (ADC2) (io), 60 PF1 (ADC1) (io), 61 PF0 (ADC0) (io), 62 AREF, 63 GND (power), 64 AVCC (power), 65 Thermal Pad (power)